# Altium schematic symbol library MCU_ST_STM32L5.SchLib: 44 symbols (part 1 of 2)
Pins are listed as number, name and electrical type; pins without a type are passive.

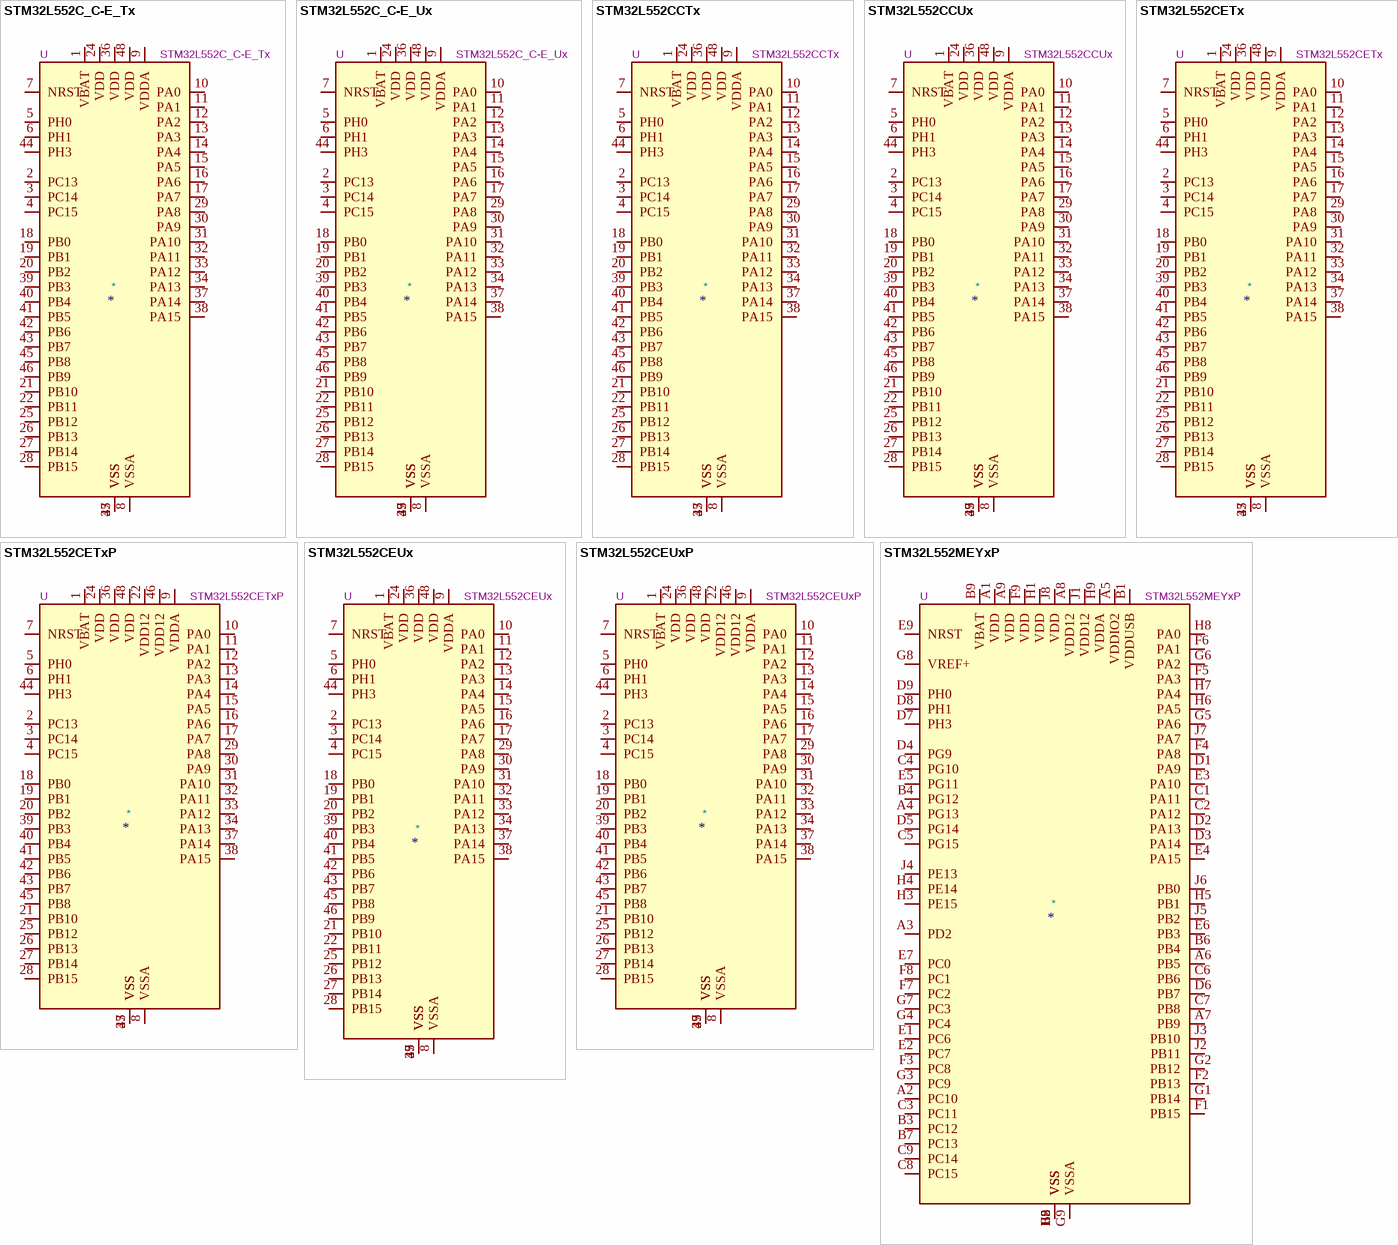
[diagram p0: symbols STM32L552C_C-E_Tx to STM32L552MEYxP]

## STM32L552C_C-E_Tx
designator *  value STM32L552C_C-E_Tx  Reference: U
STMicroelectronics Arm Cortex-M33 MCU, 256-512KB flash, 256KB RAM, 110 MHz, 1.71-3.6V, 38 GPIO, LQFP48; ki_keywords: Arm Cortex-M33 STM32L5 STM32L5x2; ki_fp_filters: LQFP*7x7mm*P0.5mm*; Footprint: Package_QFP:LQFP-48_7x7mm_P0.5mm; Datasheet: https://www.st.com/resource/en/datasheet/stm32l552cc.pdf; Description_: STMicroelectronics Arm Cortex-M33 MCU, 256-512KB flash, 256KB RAM, 110 MHz, 1.71-3.6V, 38 GPIO, LQFP48
pins: 1 VBAT, 2 PC13, 3 PC14, 4 PC15, 5 PH0, 6 PH1, 7 NRST, 8 VSSA, 9 VDDA, 10 PA0, 11 PA1, 12 PA2, 13 PA3, 14 PA4, 15 PA5, 16 PA6, 17 PA7, 18 PB0, 19 PB1, 20 PB2, 21 PB10, 22 PB11, 23 VSS, 24 VDD, 25 PB12, 26 PB13, 27 PB14, 28 PB15, 29 PA8, 30 PA9, 31 PA10, 32 PA11, 33 PA12, 34 PA13, 35 VSS, 36 VDD, 37 PA14, 38 PA15, 39 PB3, 40 PB4, 41 PB5, 42 PB6, 43 PB7, 44 PH3, 45 PB8, 46 PB9, 47 VSS, 48 VDD

## STM32L552C_C-E_Ux
designator *  value STM32L552C_C-E_Ux  Reference: U
STMicroelectronics Arm Cortex-M33 MCU, 256-512KB flash, 256KB RAM, 110 MHz, 1.71-3.6V, 38 GPIO, UFQFPN48; ki_keywords: Arm Cortex-M33 STM32L5 STM32L5x2; ki_fp_filters: QFN*1EP*7x7mm*P0.5mm*; Footprint: Package_DFN_QFN:QFN-48-1EP_7x7mm_P0.5mm_EP5.6x5.6mm; Datasheet: https://www.st.com/resource/en/datasheet/stm32l552cc.pdf; Description_: STMicroelectronics Arm Cortex-M33 MCU, 256-512KB flash, 256KB RAM, 110 MHz, 1.71-3.6V, 38 GPIO, UFQFPN48
pins: 1 VBAT, 2 PC13, 3 PC14, 4 PC15, 5 PH0, 6 PH1, 7 NRST, 8 VSSA, 9 VDDA, 10 PA0, 11 PA1, 12 PA2, 13 PA3, 14 PA4, 15 PA5, 16 PA6, 17 PA7, 18 PB0, 19 PB1, 20 PB2, 21 PB10, 22 PB11, 23 VSS, 24 VDD, 25 PB12, 26 PB13, 27 PB14, 28 PB15, 29 PA8, 30 PA9, 31 PA10, 32 PA11, 33 PA12, 34 PA13, 35 VSS, 36 VDD, 37 PA14, 38 PA15, 39 PB3, 40 PB4, 41 PB5, 42 PB6, 43 PB7, 44 PH3, 45 PB8, 46 PB9, 47 VSS, 48 VDD, 49 VSS

## STM32L552CCTx
designator *  value STM32L552CCTx  Reference: U
STMicroelectronics Arm Cortex-M33 MCU, 256KB flash, 256KB RAM, 110 MHz, 1.71-3.6V, 38 GPIO, LQFP48; ki_keywords: Arm Cortex-M33 STM32L5 STM32L5x2; ki_fp_filters: LQFP*7x7mm*P0.5mm*; Footprint: Package_QFP:LQFP-48_7x7mm_P0.5mm; Datasheet: https://www.st.com/resource/en/datasheet/stm32l552cc.pdf; Description_: STMicroelectronics Arm Cortex-M33 MCU, 256KB flash, 256KB RAM, 110 MHz, 1.71-3.6V, 38 GPIO, LQFP48
pins: 1 VBAT, 2 PC13, 3 PC14, 4 PC15, 5 PH0, 6 PH1, 7 NRST, 8 VSSA, 9 VDDA, 10 PA0, 11 PA1, 12 PA2, 13 PA3, 14 PA4, 15 PA5, 16 PA6, 17 PA7, 18 PB0, 19 PB1, 20 PB2, 21 PB10, 22 PB11, 23 VSS, 24 VDD, 25 PB12, 26 PB13, 27 PB14, 28 PB15, 29 PA8, 30 PA9, 31 PA10, 32 PA11, 33 PA12, 34 PA13, 35 VSS, 36 VDD, 37 PA14, 38 PA15, 39 PB3, 40 PB4, 41 PB5, 42 PB6, 43 PB7, 44 PH3, 45 PB8, 46 PB9, 47 VSS, 48 VDD

## STM32L552CCUx
designator *  value STM32L552CCUx  Reference: U
STMicroelectronics Arm Cortex-M33 MCU, 256KB flash, 256KB RAM, 110 MHz, 1.71-3.6V, 38 GPIO, UFQFPN48; ki_keywords: Arm Cortex-M33 STM32L5 STM32L5x2; ki_fp_filters: QFN*1EP*7x7mm*P0.5mm*; Footprint: Package_DFN_QFN:QFN-48-1EP_7x7mm_P0.5mm_EP5.6x5.6mm; Datasheet: https://www.st.com/resource/en/datasheet/stm32l552cc.pdf; Description_: STMicroelectronics Arm Cortex-M33 MCU, 256KB flash, 256KB RAM, 110 MHz, 1.71-3.6V, 38 GPIO, UFQFPN48
pins: 1 VBAT, 2 PC13, 3 PC14, 4 PC15, 5 PH0, 6 PH1, 7 NRST, 8 VSSA, 9 VDDA, 10 PA0, 11 PA1, 12 PA2, 13 PA3, 14 PA4, 15 PA5, 16 PA6, 17 PA7, 18 PB0, 19 PB1, 20 PB2, 21 PB10, 22 PB11, 23 VSS, 24 VDD, 25 PB12, 26 PB13, 27 PB14, 28 PB15, 29 PA8, 30 PA9, 31 PA10, 32 PA11, 33 PA12, 34 PA13, 35 VSS, 36 VDD, 37 PA14, 38 PA15, 39 PB3, 40 PB4, 41 PB5, 42 PB6, 43 PB7, 44 PH3, 45 PB8, 46 PB9, 47 VSS, 48 VDD, 49 VSS

## STM32L552CETx
designator *  value STM32L552CETx  Reference: U
STMicroelectronics Arm Cortex-M33 MCU, 512KB flash, 256KB RAM, 110 MHz, 1.71-3.6V, 38 GPIO, LQFP48; ki_keywords: Arm Cortex-M33 STM32L5 STM32L5x2; ki_fp_filters: LQFP*7x7mm*P0.5mm*; Footprint: Package_QFP:LQFP-48_7x7mm_P0.5mm; Datasheet: https://www.st.com/resource/en/datasheet/stm32l552ce.pdf; Description_: STMicroelectronics Arm Cortex-M33 MCU, 512KB flash, 256KB RAM, 110 MHz, 1.71-3.6V, 38 GPIO, LQFP48
pins: 1 VBAT, 2 PC13, 3 PC14, 4 PC15, 5 PH0, 6 PH1, 7 NRST, 8 VSSA, 9 VDDA, 10 PA0, 11 PA1, 12 PA2, 13 PA3, 14 PA4, 15 PA5, 16 PA6, 17 PA7, 18 PB0, 19 PB1, 20 PB2, 21 PB10, 22 PB11, 23 VSS, 24 VDD, 25 PB12, 26 PB13, 27 PB14, 28 PB15, 29 PA8, 30 PA9, 31 PA10, 32 PA11, 33 PA12, 34 PA13, 35 VSS, 36 VDD, 37 PA14, 38 PA15, 39 PB3, 40 PB4, 41 PB5, 42 PB6, 43 PB7, 44 PH3, 45 PB8, 46 PB9, 47 VSS, 48 VDD

## STM32L552CETxP
designator *  value STM32L552CETxP  Reference: U
STMicroelectronics Arm Cortex-M33 MCU, 512KB flash, 256KB RAM, 110 MHz, 1.71-3.6V, 36 GPIO, LQFP48; ki_keywords: Arm Cortex-M33 STM32L5 STM32L5x2; ki_fp_filters: LQFP*7x7mm*P0.5mm*; Footprint: Package_QFP:LQFP-48_7x7mm_P0.5mm; Datasheet: https://www.st.com/resource/en/datasheet/stm32l552ce.pdf; Description_: STMicroelectronics Arm Cortex-M33 MCU, 512KB flash, 256KB RAM, 110 MHz, 1.71-3.6V, 36 GPIO, LQFP48
pins: 1 VBAT, 2 PC13, 3 PC14, 4 PC15, 5 PH0, 6 PH1, 7 NRST, 8 VSSA, 9 VDDA, 10 PA0, 11 PA1, 12 PA2, 13 PA3, 14 PA4, 15 PA5, 16 PA6, 17 PA7, 18 PB0, 19 PB1, 20 PB2, 21 PB10, 22 VDD12, 23 VSS, 24 VDD, 25 PB12, 26 PB13, 27 PB14, 28 PB15, 29 PA8, 30 PA9, 31 PA10, 32 PA11, 33 PA12, 34 PA13, 35 VSS, 36 VDD, 37 PA14, 38 PA15, 39 PB3, 40 PB4, 41 PB5, 42 PB6, 43 PB7, 44 PH3, 45 PB8, 46 VDD12, 47 VSS, 48 VDD

## STM32L552CEUx
designator *  value STM32L552CEUx  Reference: U
STMicroelectronics Arm Cortex-M33 MCU, 512KB flash, 256KB RAM, 110 MHz, 1.71-3.6V, 38 GPIO, UFQFPN48; ki_keywords: Arm Cortex-M33 STM32L5 STM32L5x2; ki_fp_filters: QFN*1EP*7x7mm*P0.5mm*; Footprint: Package_DFN_QFN:QFN-48-1EP_7x7mm_P0.5mm_EP5.6x5.6mm; Datasheet: https://www.st.com/resource/en/datasheet/stm32l552ce.pdf; Description_: STMicroelectronics Arm Cortex-M33 MCU, 512KB flash, 256KB RAM, 110 MHz, 1.71-3.6V, 38 GPIO, UFQFPN48
pins: 1 VBAT, 2 PC13, 3 PC14, 4 PC15, 5 PH0, 6 PH1, 7 NRST, 8 VSSA, 9 VDDA, 10 PA0, 11 PA1, 12 PA2, 13 PA3, 14 PA4, 15 PA5, 16 PA6, 17 PA7, 18 PB0, 19 PB1, 20 PB2, 21 PB10, 22 PB11, 23 VSS, 24 VDD, 25 PB12, 26 PB13, 27 PB14, 28 PB15, 29 PA8, 30 PA9, 31 PA10, 32 PA11, 33 PA12, 34 PA13, 35 VSS, 36 VDD, 37 PA14, 38 PA15, 39 PB3, 40 PB4, 41 PB5, 42 PB6, 43 PB7, 44 PH3, 45 PB8, 46 PB9, 47 VSS, 48 VDD, 49 VSS

## STM32L552CEUxP
designator *  value STM32L552CEUxP  Reference: U
STMicroelectronics Arm Cortex-M33 MCU, 512KB flash, 256KB RAM, 110 MHz, 1.71-3.6V, 36 GPIO, UFQFPN48; ki_keywords: Arm Cortex-M33 STM32L5 STM32L5x2; ki_fp_filters: QFN*1EP*7x7mm*P0.5mm*; Footprint: Package_DFN_QFN:QFN-48-1EP_7x7mm_P0.5mm_EP5.6x5.6mm; Datasheet: https://www.st.com/resource/en/datasheet/stm32l552ce.pdf; Description_: STMicroelectronics Arm Cortex-M33 MCU, 512KB flash, 256KB RAM, 110 MHz, 1.71-3.6V, 36 GPIO, UFQFPN48
pins: 1 VBAT, 2 PC13, 3 PC14, 4 PC15, 5 PH0, 6 PH1, 7 NRST, 8 VSSA, 9 VDDA, 10 PA0, 11 PA1, 12 PA2, 13 PA3, 14 PA4, 15 PA5, 16 PA6, 17 PA7, 18 PB0, 19 PB1, 20 PB2, 21 PB10, 22 VDD12, 23 VSS, 24 VDD, 25 PB12, 26 PB13, 27 PB14, 28 PB15, 29 PA8, 30 PA9, 31 PA10, 32 PA11, 33 PA12, 34 PA13, 35 VSS, 36 VDD, 37 PA14, 38 PA15, 39 PB3, 40 PB4, 41 PB5, 42 PB6, 43 PB7, 44 PH3, 45 PB8, 46 VDD12, 47 VSS, 48 VDD, 49 VSS

## STM32L552MEYxP
designator *  value STM32L552MEYxP  Reference: U
STMicroelectronics Arm Cortex-M33 MCU, 512KB flash, 256KB RAM, 110 MHz, 1.71-3.6V, 61 GPIO, WLCSP81; ki_keywords: Arm Cortex-M33 STM32L5 STM32L5x2; ki_fp_filters: ST*WLCSP*4.36x4.07mm*Layout9x9*P0.4mm*; Footprint: Package_CSP:ST_WLCSP-81_4.36x4.07mm_Layout9x9_P0.4mm; Datasheet: https://www.st.com/resource/en/datasheet/stm32l552me.pdf; Description_: STMicroelectronics Arm Cortex-M33 MCU, 512KB flash, 256KB RAM, 110 MHz, 1.71-3.6V, 61 GPIO, WLCSP81
pins: A1 VDD, A2 PC10, A3 PD2, A4 PG13, A5 VDDIO2, A6 PB5, A7 PB9, A8 VDD12, A9 VDD, B1 VDDUSB, B2 VSS, B3 PC12, B4 PG12, B5 VSS, B6 PB4, B7 PC13, B8 VSS, B9 VBAT, C1 PA11, C2 PA12, C3 PC11, C4 PG10, C5 PG15, C6 PB6, C7 PB8, C8 PC15, C9 PC14, D1 PA9, D2 PA13, D3 PA14, D4 PG9, D5 PG14, D6 PB7, D7 PH3, D8 PH1, D9 PH0, E1 PC6, E2 PC7, E3 PA10, E4 PA15, E5 PG11, E6 PB3, E7 PC0, E8 VSS, E9 NRST, F1 PB15, F2 PB13, F3 PC8, F4 PA8, F5 PA3, F6 PA1, F7 PC2, F8 PC1, F9 VDD, G1 PB14, G2 PB12, G3 PC9, G4 PC4, G5 PA6, G6 PA2, G7 PC3, G8 VREF+, G9 VSSA, H1 VDD, H2 VSS, H3 PE15, H4 PE14, H5 PB1, H6 PA5, H7 PA4, H8 PA0, H9 VDDA, J1 VDD12, J2 PB11, J3 PB10, J4 PE13, J5 PB2, J6 PB0, J7 PA7, J8 VDD, J9 VSS

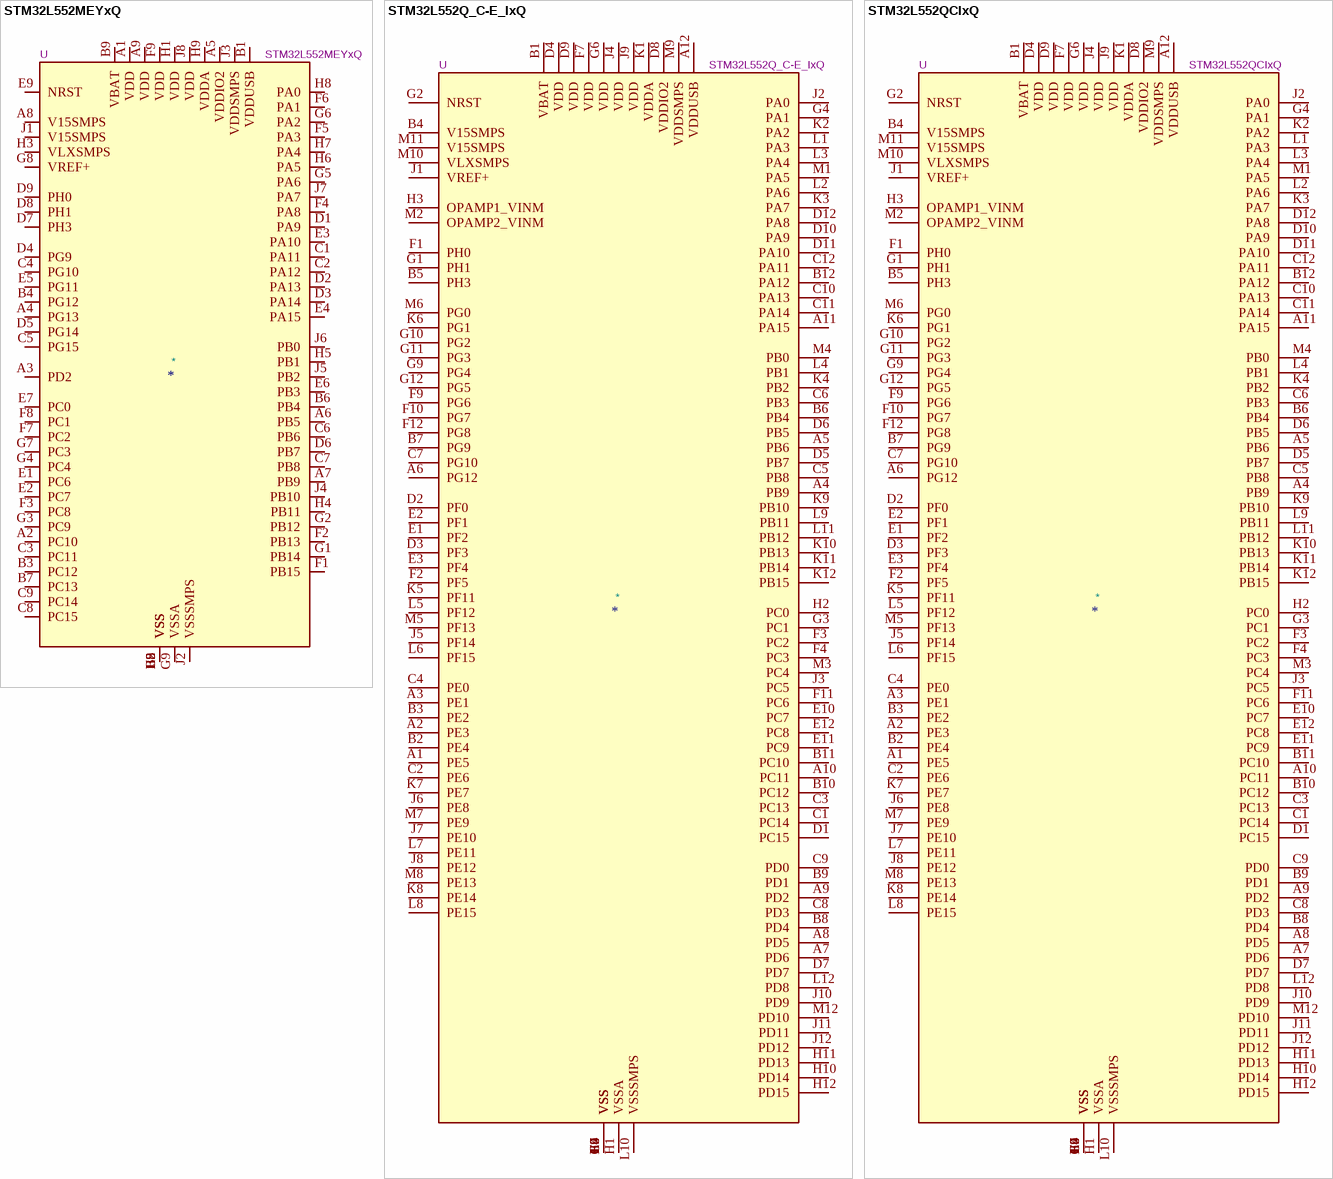
[diagram p1: symbols STM32L552MEYxQ to STM32L552QCIxQ]

## STM32L552MEYxQ
designator *  value STM32L552MEYxQ  Reference: U
STMicroelectronics Arm Cortex-M33 MCU, 512KB flash, 256KB RAM, 110 MHz, 1.71-3.6V, 58 GPIO, WLCSP81; ki_keywords: Arm Cortex-M33 STM32L5 STM32L5x2; ki_fp_filters: ST*WLCSP*4.36x4.07mm*Layout9x9*P0.4mm*; Footprint: Package_CSP:ST_WLCSP-81_4.36x4.07mm_Layout9x9_P0.4mm; Datasheet: https://www.st.com/resource/en/datasheet/stm32l552me.pdf; Description_: STMicroelectronics Arm Cortex-M33 MCU, 512KB flash, 256KB RAM, 110 MHz, 1.71-3.6V, 58 GPIO, WLCSP81
pins: A1 VDD, A2 PC10, A3 PD2, A4 PG13, A5 VDDIO2, A6 PB5, A7 PB9, A8 V15SMPS, A9 VDD, B1 VDDUSB, B2 VSS, B3 PC12, B4 PG12, B5 VSS, B6 PB4, B7 PC13, B8 VSS, B9 VBAT, C1 PA11, C2 PA12, C3 PC11, C4 PG10, C5 PG15, C6 PB6, C7 PB8, C8 PC15, C9 PC14, D1 PA9, D2 PA13, D3 PA14, D4 PG9, D5 PG14, D6 PB7, D7 PH3, D8 PH1, D9 PH0, E1 PC6, E2 PC7, E3 PA10, E4 PA15, E5 PG11, E6 PB3, E7 PC0, E8 VSS, E9 NRST, F1 PB15, F2 PB13, F3 PC8, F4 PA8, F5 PA3, F6 PA1, F7 PC2, F8 PC1, F9 VDD, G1 PB14, G2 PB12, G3 PC9, G4 PC4, G5 PA6, G6 PA2, G7 PC3, G8 VREF+, G9 VSSA, H1 VDD, H2 VSS, H3 VLXSMPS, H4 PB11, H5 PB1, H6 PA5, H7 PA4, H8 PA0, H9 VDDA, J1 V15SMPS, J2 VSSSMPS, J3 VDDSMPS, J4 PB10, J5 PB2, J6 PB0, J7 PA7, J8 VDD, J9 VSS

## STM32L552Q_C-E_IxQ
designator *  value STM32L552Q_C-E_IxQ  Reference: U
STMicroelectronics Arm Cortex-M33 MCU, 256-512KB flash, 256KB RAM, 110 MHz, 1.71-3.6V, 106 GPIO, UFBGA132; ki_keywords: Arm Cortex-M33 STM32L5 STM32L5x2; ki_fp_filters: UFBGA*7x7mm*Layout12x12*P0.5mm*; Footprint: Package_BGA:UFBGA-132_7x7mm_Layout12x12_P0.5mm; Datasheet: https://www.st.com/resource/en/datasheet/stm32l552qc.pdf; Description_: STMicroelectronics Arm Cortex-M33 MCU, 256-512KB flash, 256KB RAM, 110 MHz, 1.71-3.6V, 106 GPIO, UFBGA132
pins: A1 PE5, A2 PE3, A3 PE1, A4 PB9, A5 PB6, A6 PG12, A7 PD6, A8 PD5, A9 PD2, A10 PC11, A11 PA15, A12 VDDUSB, B1 VBAT, B2 PE4, B3 PE2, B4 V15SMPS, B5 PH3, B6 PB4, B7 PG9, B8 PD4, B9 PD1, B10 PC12, B11 PC10, B12 PA12, C1 PC14, C2 PE6, C3 PC13, C4 PE0, C5 PB8, C6 PB3, C7 PG10, C8 PD3, C9 PD0, C10 PA13, C11 PA14, C12 PA11, D1 PC15, D2 PF0, D3 PF3, D4 VDD, D5 PB7, D6 PB5, D7 PD7, D8 VDDIO2, D9 VDD, D10 PA9, D11 PA10, D12 PA8, E1 PF2, E2 PF1, E3 PF4, E4 VSS, E9 VSS, E10 PC7, E11 PC9, E12 PC8, F1 PH0, F2 PF5, F3 PC2, F4 PC3, F6 VSS, F7 VDD, F9 PG6, F10 PG7, F11 PC6, F12 PG8, G1 PH1, G2 NRST, G3 PC1, G4 PA1, G6 VDD, G7 VSS, G9 PG4, G10 PG2, G11 PG3, G12 PG5, H1 VSSA, H2 PC0, H3 OPAMP1_VINM, H4 VSS, H9 VSS, H10 PD14, H11 PD13, H12 PD15, J1 VREF+, J2 PA0, J3 PC5, J4 VDD, J5 PF14, J6 PE8, J7 PE10, J8 PE12, J9 VDD, J10 PD9, J11 PD11, J12 PD12, K1 VDDA, K2 PA2, K3 PA7, K4 PB2, K5 PF11, K6 PG1, K7 PE7, K8 PE14, K9 PB10, K10 PB13, K11 PB14, K12 PB15, L1 PA3, L2 PA6, L3 PA4, L4 PB1, L5 PF12, L6 PF15, L7 PE11, L8 PE15, L9 PB11, L10 VSSSMPS, L11 PB12, L12 PD8, M1 PA5, M2 OPAMP2_VINM, M3 PC4, M4 PB0, M5 PF13, M6 PG0, M7 PE9, M8 PE13, M9 VDDSMPS, M10 VLXSMPS, M11 V15SMPS, M12 PD10

## STM32L552QCIxQ
designator *  value STM32L552QCIxQ  Reference: U
STMicroelectronics Arm Cortex-M33 MCU, 256KB flash, 256KB RAM, 110 MHz, 1.71-3.6V, 106 GPIO, UFBGA132; ki_keywords: Arm Cortex-M33 STM32L5 STM32L5x2; ki_fp_filters: UFBGA*7x7mm*Layout12x12*P0.5mm*; Footprint: Package_BGA:UFBGA-132_7x7mm_Layout12x12_P0.5mm; Datasheet: https://www.st.com/resource/en/datasheet/stm32l552qc.pdf; Description_: STMicroelectronics Arm Cortex-M33 MCU, 256KB flash, 256KB RAM, 110 MHz, 1.71-3.6V, 106 GPIO, UFBGA132
pins: A1 PE5, A2 PE3, A3 PE1, A4 PB9, A5 PB6, A6 PG12, A7 PD6, A8 PD5, A9 PD2, A10 PC11, A11 PA15, A12 VDDUSB, B1 VBAT, B2 PE4, B3 PE2, B4 V15SMPS, B5 PH3, B6 PB4, B7 PG9, B8 PD4, B9 PD1, B10 PC12, B11 PC10, B12 PA12, C1 PC14, C2 PE6, C3 PC13, C4 PE0, C5 PB8, C6 PB3, C7 PG10, C8 PD3, C9 PD0, C10 PA13, C11 PA14, C12 PA11, D1 PC15, D2 PF0, D3 PF3, D4 VDD, D5 PB7, D6 PB5, D7 PD7, D8 VDDIO2, D9 VDD, D10 PA9, D11 PA10, D12 PA8, E1 PF2, E2 PF1, E3 PF4, E4 VSS, E9 VSS, E10 PC7, E11 PC9, E12 PC8, F1 PH0, F2 PF5, F3 PC2, F4 PC3, F6 VSS, F7 VDD, F9 PG6, F10 PG7, F11 PC6, F12 PG8, G1 PH1, G2 NRST, G3 PC1, G4 PA1, G6 VDD, G7 VSS, G9 PG4, G10 PG2, G11 PG3, G12 PG5, H1 VSSA, H2 PC0, H3 OPAMP1_VINM, H4 VSS, H9 VSS, H10 PD14, H11 PD13, H12 PD15, J1 VREF+, J2 PA0, J3 PC5, J4 VDD, J5 PF14, J6 PE8, J7 PE10, J8 PE12, J9 VDD, J10 PD9, J11 PD11, J12 PD12, K1 VDDA, K2 PA2, K3 PA7, K4 PB2, K5 PF11, K6 PG1, K7 PE7, K8 PE14, K9 PB10, K10 PB13, K11 PB14, K12 PB15, L1 PA3, L2 PA6, L3 PA4, L4 PB1, L5 PF12, L6 PF15, L7 PE11, L8 PE15, L9 PB11, L10 VSSSMPS, L11 PB12, L12 PD8, M1 PA5, M2 OPAMP2_VINM, M3 PC4, M4 PB0, M5 PF13, M6 PG0, M7 PE9, M8 PE13, M9 VDDSMPS, M10 VLXSMPS, M11 V15SMPS, M12 PD10

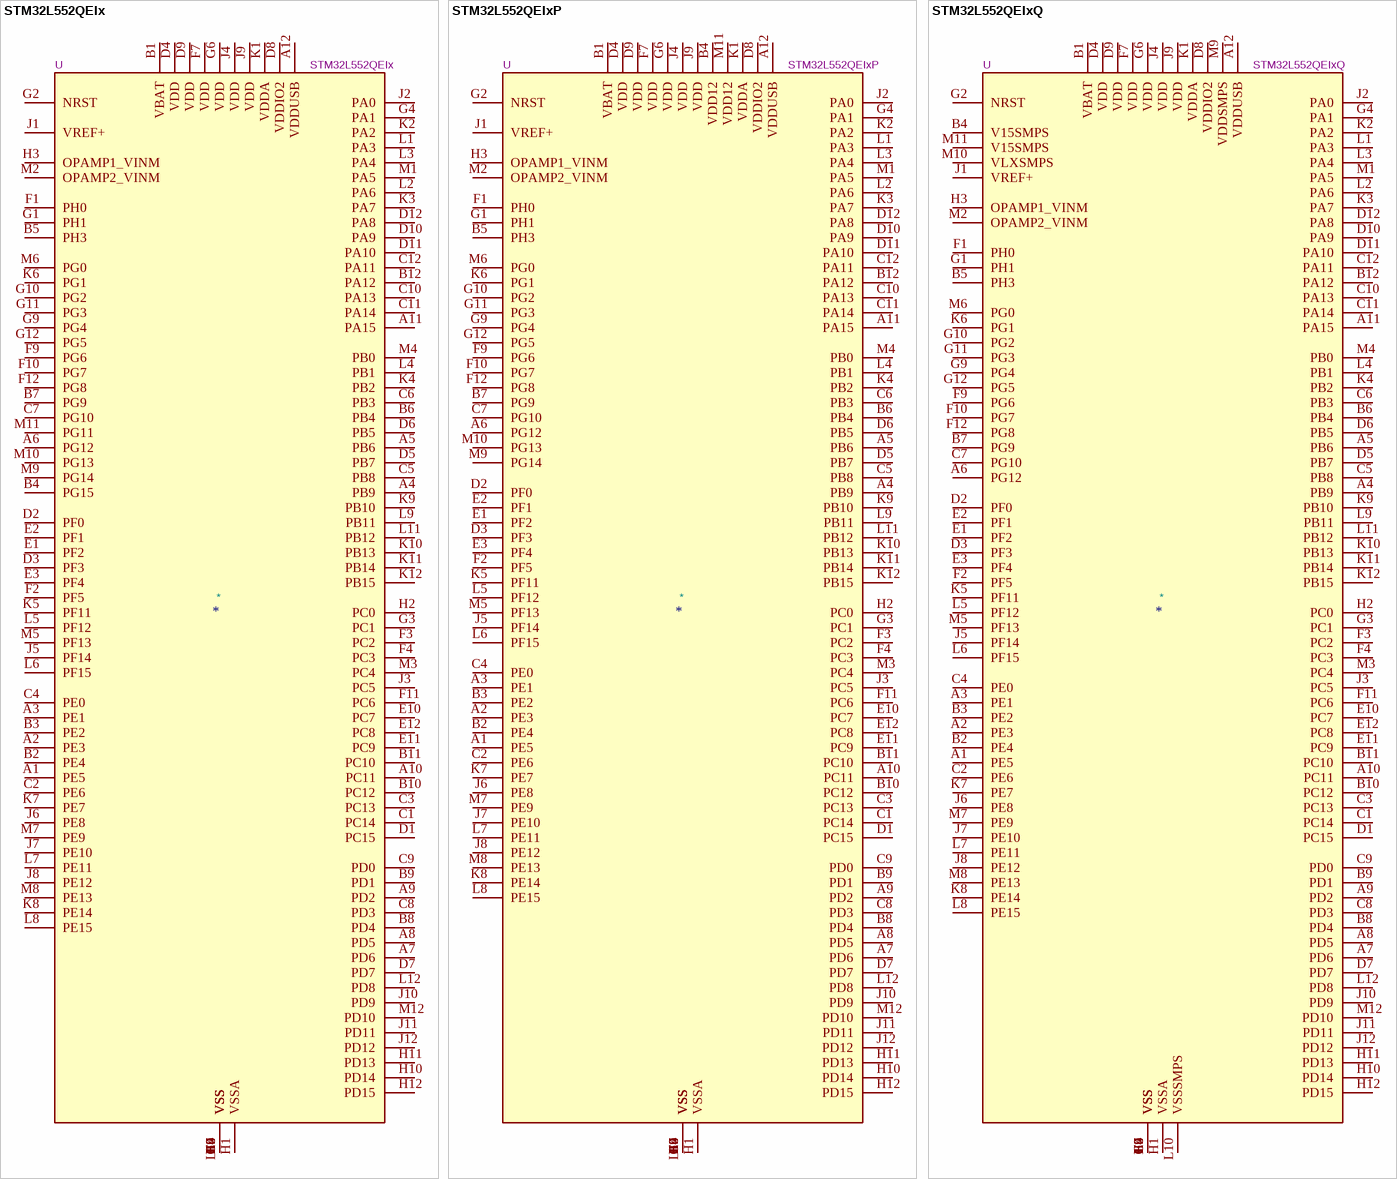
[diagram p2: symbols STM32L552QEIx to STM32L552QEIxQ]

## STM32L552QEIx
designator *  value STM32L552QEIx  Reference: U
STMicroelectronics Arm Cortex-M33 MCU, 512KB flash, 256KB RAM, 110 MHz, 1.71-3.6V, 110 GPIO, UFBGA132; ki_keywords: Arm Cortex-M33 STM32L5 STM32L5x2; ki_fp_filters: UFBGA*7x7mm*Layout12x12*P0.5mm*; Footprint: Package_BGA:UFBGA-132_7x7mm_Layout12x12_P0.5mm; Datasheet: https://www.st.com/resource/en/datasheet/stm32l552qe.pdf; Description_: STMicroelectronics Arm Cortex-M33 MCU, 512KB flash, 256KB RAM, 110 MHz, 1.71-3.6V, 110 GPIO, UFBGA132
pins: A1 PE5, A2 PE3, A3 PE1, A4 PB9, A5 PB6, A6 PG12, A7 PD6, A8 PD5, A9 PD2, A10 PC11, A11 PA15, A12 VDDUSB, B1 VBAT, B2 PE4, B3 PE2, B4 PG15, B5 PH3, B6 PB4, B7 PG9, B8 PD4, B9 PD1, B10 PC12, B11 PC10, B12 PA12, C1 PC14, C2 PE6, C3 PC13, C4 PE0, C5 PB8, C6 PB3, C7 PG10, C8 PD3, C9 PD0, C10 PA13, C11 PA14, C12 PA11, D1 PC15, D2 PF0, D3 PF3, D4 VDD, D5 PB7, D6 PB5, D7 PD7, D8 VDDIO2, D9 VDD, D10 PA9, D11 PA10, D12 PA8, E1 PF2, E2 PF1, E3 PF4, E4 VSS, E9 VSS, E10 PC7, E11 PC9, E12 PC8, F1 PH0, F2 PF5, F3 PC2, F4 PC3, F6 VSS, F7 VDD, F9 PG6, F10 PG7, F11 PC6, F12 PG8, G1 PH1, G2 NRST, G3 PC1, G4 PA1, G6 VDD, G7 VSS, G9 PG4, G10 PG2, G11 PG3, G12 PG5, H1 VSSA, H2 PC0, H3 OPAMP1_VINM, H4 VSS, H9 VSS, H10 PD14, H11 PD13, H12 PD15, J1 VREF+, J2 PA0, J3 PC5, J4 VDD, J5 PF14, J6 PE8, J7 PE10, J8 PE12, J9 VDD, J10 PD9, J11 PD11, J12 PD12, K1 VDDA, K2 PA2, K3 PA7, K4 PB2, K5 PF11, K6 PG1, K7 PE7, K8 PE14, K9 PB10, K10 PB13, K11 PB14, K12 PB15, L1 PA3, L2 PA6, L3 PA4, L4 PB1, L5 PF12, L6 PF15, L7 PE11, L8 PE15, L9 PB11, L10 VSS, L11 PB12, L12 PD8, M1 PA5, M2 OPAMP2_VINM, M3 PC4, M4 PB0, M5 PF13, M6 PG0, M7 PE9, M8 PE13, M9 PG14, M10 PG13, M11 PG11, M12 PD10

## STM32L552QEIxP
designator *  value STM32L552QEIxP  Reference: U
STMicroelectronics Arm Cortex-M33 MCU, 512KB flash, 256KB RAM, 110 MHz, 1.71-3.6V, 108 GPIO, UFBGA132; ki_keywords: Arm Cortex-M33 STM32L5 STM32L5x2; ki_fp_filters: UFBGA*7x7mm*Layout12x12*P0.5mm*; Footprint: Package_BGA:UFBGA-132_7x7mm_Layout12x12_P0.5mm; Datasheet: https://www.st.com/resource/en/datasheet/stm32l552qe.pdf; Description_: STMicroelectronics Arm Cortex-M33 MCU, 512KB flash, 256KB RAM, 110 MHz, 1.71-3.6V, 108 GPIO, UFBGA132
pins: A1 PE5, A2 PE3, A3 PE1, A4 PB9, A5 PB6, A6 PG12, A7 PD6, A8 PD5, A9 PD2, A10 PC11, A11 PA15, A12 VDDUSB, B1 VBAT, B2 PE4, B3 PE2, B4 VDD12, B5 PH3, B6 PB4, B7 PG9, B8 PD4, B9 PD1, B10 PC12, B11 PC10, B12 PA12, C1 PC14, C2 PE6, C3 PC13, C4 PE0, C5 PB8, C6 PB3, C7 PG10, C8 PD3, C9 PD0, C10 PA13, C11 PA14, C12 PA11, D1 PC15, D2 PF0, D3 PF3, D4 VDD, D5 PB7, D6 PB5, D7 PD7, D8 VDDIO2, D9 VDD, D10 PA9, D11 PA10, D12 PA8, E1 PF2, E2 PF1, E3 PF4, E4 VSS, E9 VSS, E10 PC7, E11 PC9, E12 PC8, F1 PH0, F2 PF5, F3 PC2, F4 PC3, F6 VSS, F7 VDD, F9 PG6, F10 PG7, F11 PC6, F12 PG8, G1 PH1, G2 NRST, G3 PC1, G4 PA1, G6 VDD, G7 VSS, G9 PG4, G10 PG2, G11 PG3, G12 PG5, H1 VSSA, H2 PC0, H3 OPAMP1_VINM, H4 VSS, H9 VSS, H10 PD14, H11 PD13, H12 PD15, J1 VREF+, J2 PA0, J3 PC5, J4 VDD, J5 PF14, J6 PE8, J7 PE10, J8 PE12, J9 VDD, J10 PD9, J11 PD11, J12 PD12, K1 VDDA, K2 PA2, K3 PA7, K4 PB2, K5 PF11, K6 PG1, K7 PE7, K8 PE14, K9 PB10, K10 PB13, K11 PB14, K12 PB15, L1 PA3, L2 PA6, L3 PA4, L4 PB1, L5 PF12, L6 PF15, L7 PE11, L8 PE15, L9 PB11, L10 VSS, L11 PB12, L12 PD8, M1 PA5, M2 OPAMP2_VINM, M3 PC4, M4 PB0, M5 PF13, M6 PG0, M7 PE9, M8 PE13, M9 PG14, M10 PG13, M11 VDD12, M12 PD10

## STM32L552QEIxQ
designator *  value STM32L552QEIxQ  Reference: U
STMicroelectronics Arm Cortex-M33 MCU, 512KB flash, 256KB RAM, 110 MHz, 1.71-3.6V, 106 GPIO, UFBGA132; ki_keywords: Arm Cortex-M33 STM32L5 STM32L5x2; ki_fp_filters: UFBGA*7x7mm*Layout12x12*P0.5mm*; Footprint: Package_BGA:UFBGA-132_7x7mm_Layout12x12_P0.5mm; Datasheet: https://www.st.com/resource/en/datasheet/stm32l552qe.pdf; Description_: STMicroelectronics Arm Cortex-M33 MCU, 512KB flash, 256KB RAM, 110 MHz, 1.71-3.6V, 106 GPIO, UFBGA132
pins: A1 PE5, A2 PE3, A3 PE1, A4 PB9, A5 PB6, A6 PG12, A7 PD6, A8 PD5, A9 PD2, A10 PC11, A11 PA15, A12 VDDUSB, B1 VBAT, B2 PE4, B3 PE2, B4 V15SMPS, B5 PH3, B6 PB4, B7 PG9, B8 PD4, B9 PD1, B10 PC12, B11 PC10, B12 PA12, C1 PC14, C2 PE6, C3 PC13, C4 PE0, C5 PB8, C6 PB3, C7 PG10, C8 PD3, C9 PD0, C10 PA13, C11 PA14, C12 PA11, D1 PC15, D2 PF0, D3 PF3, D4 VDD, D5 PB7, D6 PB5, D7 PD7, D8 VDDIO2, D9 VDD, D10 PA9, D11 PA10, D12 PA8, E1 PF2, E2 PF1, E3 PF4, E4 VSS, E9 VSS, E10 PC7, E11 PC9, E12 PC8, F1 PH0, F2 PF5, F3 PC2, F4 PC3, F6 VSS, F7 VDD, F9 PG6, F10 PG7, F11 PC6, F12 PG8, G1 PH1, G2 NRST, G3 PC1, G4 PA1, G6 VDD, G7 VSS, G9 PG4, G10 PG2, G11 PG3, G12 PG5, H1 VSSA, H2 PC0, H3 OPAMP1_VINM, H4 VSS, H9 VSS, H10 PD14, H11 PD13, H12 PD15, J1 VREF+, J2 PA0, J3 PC5, J4 VDD, J5 PF14, J6 PE8, J7 PE10, J8 PE12, J9 VDD, J10 PD9, J11 PD11, J12 PD12, K1 VDDA, K2 PA2, K3 PA7, K4 PB2, K5 PF11, K6 PG1, K7 PE7, K8 PE14, K9 PB10, K10 PB13, K11 PB14, K12 PB15, L1 PA3, L2 PA6, L3 PA4, L4 PB1, L5 PF12, L6 PF15, L7 PE11, L8 PE15, L9 PB11, L10 VSSSMPS, L11 PB12, L12 PD8, M1 PA5, M2 OPAMP2_VINM, M3 PC4, M4 PB0, M5 PF13, M6 PG0, M7 PE9, M8 PE13, M9 VDDSMPS, M10 VLXSMPS, M11 V15SMPS, M12 PD10

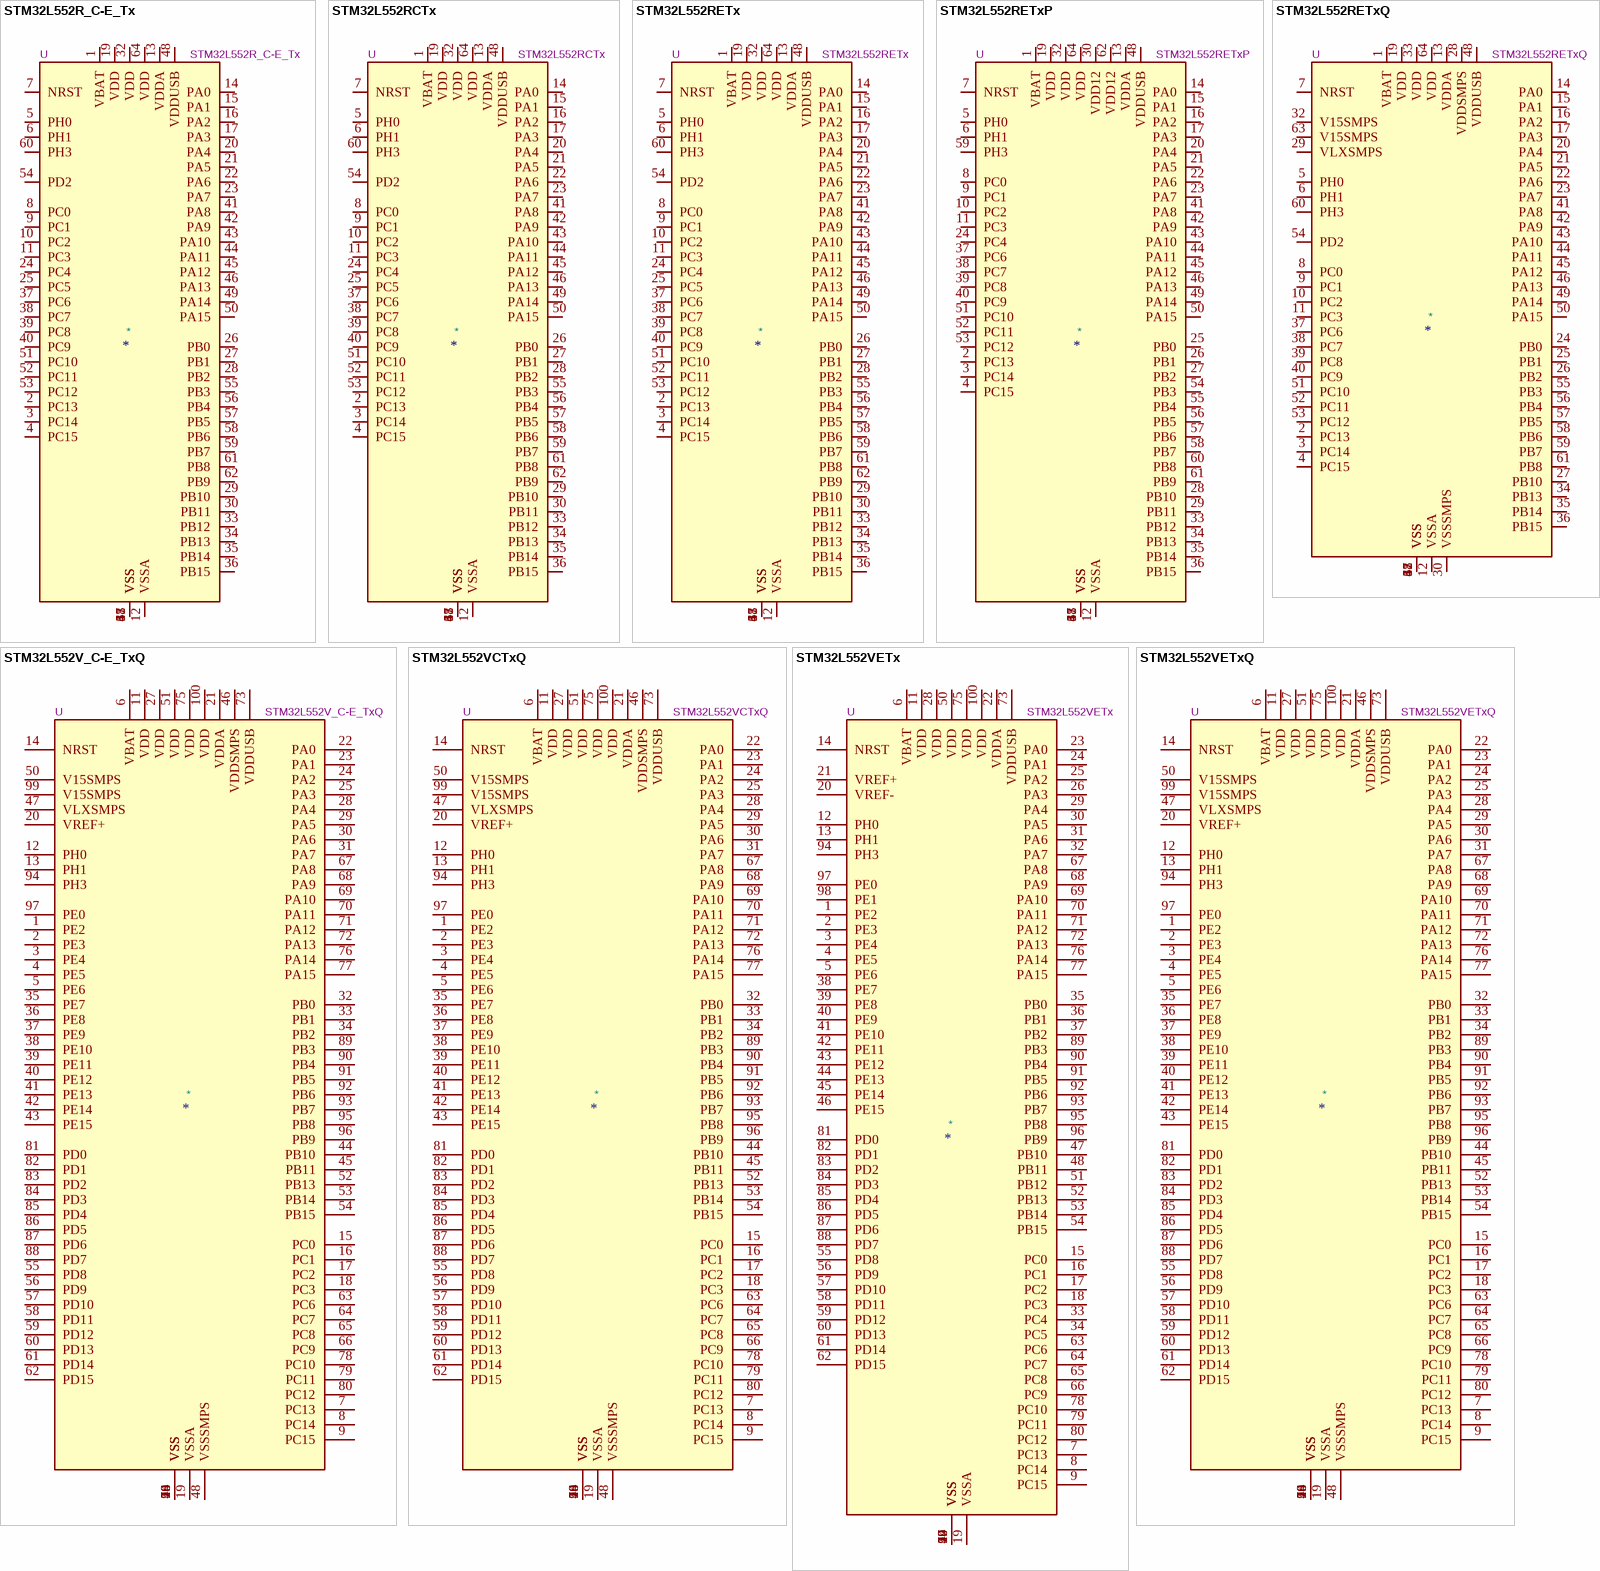
[diagram p3: symbols STM32L552R_C-E_Tx to STM32L552VETxQ]

## STM32L552R_C-E_Tx
designator *  value STM32L552R_C-E_Tx  Reference: U
STMicroelectronics Arm Cortex-M33 MCU, 256-512KB flash, 256KB RAM, 110 MHz, 1.71-3.6V, 52 GPIO, LQFP64; ki_keywords: Arm Cortex-M33 STM32L5 STM32L5x2; ki_fp_filters: LQFP*10x10mm*P0.5mm*; Footprint: Package_QFP:LQFP-64_10x10mm_P0.5mm; Datasheet: https://www.st.com/resource/en/datasheet/stm32l552rc.pdf; Description_: STMicroelectronics Arm Cortex-M33 MCU, 256-512KB flash, 256KB RAM, 110 MHz, 1.71-3.6V, 52 GPIO, LQFP64
pins: 1 VBAT, 2 PC13, 3 PC14, 4 PC15, 5 PH0, 6 PH1, 7 NRST, 8 PC0, 9 PC1, 10 PC2, 11 PC3, 12 VSSA, 13 VDDA, 14 PA0, 15 PA1, 16 PA2, 17 PA3, 18 VSS, 19 VDD, 20 PA4, 21 PA5, 22 PA6, 23 PA7, 24 PC4, 25 PC5, 26 PB0, 27 PB1, 28 PB2, 29 PB10, 30 PB11, 31 VSS, 32 VDD, 33 PB12, 34 PB13, 35 PB14, 36 PB15, 37 PC6, 38 PC7, 39 PC8, 40 PC9, 41 PA8, 42 PA9, 43 PA10, 44 PA11, 45 PA12, 46 PA13, 47 VSS, 48 VDDUSB, 49 PA14, 50 PA15, 51 PC10, 52 PC11, 53 PC12, 54 PD2, 55 PB3, 56 PB4, 57 PB5, 58 PB6, 59 PB7, 60 PH3, 61 PB8, 62 PB9, 63 VSS, 64 VDD

## STM32L552RCTx
designator *  value STM32L552RCTx  Reference: U
STMicroelectronics Arm Cortex-M33 MCU, 256KB flash, 256KB RAM, 110 MHz, 1.71-3.6V, 52 GPIO, LQFP64; ki_keywords: Arm Cortex-M33 STM32L5 STM32L5x2; ki_fp_filters: LQFP*10x10mm*P0.5mm*; Footprint: Package_QFP:LQFP-64_10x10mm_P0.5mm; Datasheet: https://www.st.com/resource/en/datasheet/stm32l552rc.pdf; Description_: STMicroelectronics Arm Cortex-M33 MCU, 256KB flash, 256KB RAM, 110 MHz, 1.71-3.6V, 52 GPIO, LQFP64
pins: 1 VBAT, 2 PC13, 3 PC14, 4 PC15, 5 PH0, 6 PH1, 7 NRST, 8 PC0, 9 PC1, 10 PC2, 11 PC3, 12 VSSA, 13 VDDA, 14 PA0, 15 PA1, 16 PA2, 17 PA3, 18 VSS, 19 VDD, 20 PA4, 21 PA5, 22 PA6, 23 PA7, 24 PC4, 25 PC5, 26 PB0, 27 PB1, 28 PB2, 29 PB10, 30 PB11, 31 VSS, 32 VDD, 33 PB12, 34 PB13, 35 PB14, 36 PB15, 37 PC6, 38 PC7, 39 PC8, 40 PC9, 41 PA8, 42 PA9, 43 PA10, 44 PA11, 45 PA12, 46 PA13, 47 VSS, 48 VDDUSB, 49 PA14, 50 PA15, 51 PC10, 52 PC11, 53 PC12, 54 PD2, 55 PB3, 56 PB4, 57 PB5, 58 PB6, 59 PB7, 60 PH3, 61 PB8, 62 PB9, 63 VSS, 64 VDD

## STM32L552RETx
designator *  value STM32L552RETx  Reference: U
STMicroelectronics Arm Cortex-M33 MCU, 512KB flash, 256KB RAM, 110 MHz, 1.71-3.6V, 52 GPIO, LQFP64; ki_keywords: Arm Cortex-M33 STM32L5 STM32L5x2; ki_fp_filters: LQFP*10x10mm*P0.5mm*; Footprint: Package_QFP:LQFP-64_10x10mm_P0.5mm; Datasheet: https://www.st.com/resource/en/datasheet/stm32l552re.pdf; Description_: STMicroelectronics Arm Cortex-M33 MCU, 512KB flash, 256KB RAM, 110 MHz, 1.71-3.6V, 52 GPIO, LQFP64
pins: 1 VBAT, 2 PC13, 3 PC14, 4 PC15, 5 PH0, 6 PH1, 7 NRST, 8 PC0, 9 PC1, 10 PC2, 11 PC3, 12 VSSA, 13 VDDA, 14 PA0, 15 PA1, 16 PA2, 17 PA3, 18 VSS, 19 VDD, 20 PA4, 21 PA5, 22 PA6, 23 PA7, 24 PC4, 25 PC5, 26 PB0, 27 PB1, 28 PB2, 29 PB10, 30 PB11, 31 VSS, 32 VDD, 33 PB12, 34 PB13, 35 PB14, 36 PB15, 37 PC6, 38 PC7, 39 PC8, 40 PC9, 41 PA8, 42 PA9, 43 PA10, 44 PA11, 45 PA12, 46 PA13, 47 VSS, 48 VDDUSB, 49 PA14, 50 PA15, 51 PC10, 52 PC11, 53 PC12, 54 PD2, 55 PB3, 56 PB4, 57 PB5, 58 PB6, 59 PB7, 60 PH3, 61 PB8, 62 PB9, 63 VSS, 64 VDD

## STM32L552RETxP
designator *  value STM32L552RETxP  Reference: U
STMicroelectronics Arm Cortex-M33 MCU, 512KB flash, 256KB RAM, 110 MHz, 1.71-3.6V, 50 GPIO, LQFP64; ki_keywords: Arm Cortex-M33 STM32L5 STM32L5x2; ki_fp_filters: LQFP*10x10mm*P0.5mm*; Footprint: Package_QFP:LQFP-64_10x10mm_P0.5mm; Datasheet: https://www.st.com/resource/en/datasheet/stm32l552re.pdf; Description_: STMicroelectronics Arm Cortex-M33 MCU, 512KB flash, 256KB RAM, 110 MHz, 1.71-3.6V, 50 GPIO, LQFP64
pins: 1 VBAT, 2 PC13, 3 PC14, 4 PC15, 5 PH0, 6 PH1, 7 NRST, 8 PC0, 9 PC1, 10 PC2, 11 PC3, 12 VSSA, 13 VDDA, 14 PA0, 15 PA1, 16 PA2, 17 PA3, 18 VSS, 19 VDD, 20 PA4, 21 PA5, 22 PA6, 23 PA7, 24 PC4, 25 PB0, 26 PB1, 27 PB2, 28 PB10, 29 PB11, 30 VDD12, 31 VSS, 32 VDD, 33 PB12, 34 PB13, 35 PB14, 36 PB15, 37 PC6, 38 PC7, 39 PC8, 40 PC9, 41 PA8, 42 PA9, 43 PA10, 44 PA11, 45 PA12, 46 PA13, 47 VSS, 48 VDDUSB, 49 PA14, 50 PA15, 51 PC10, 52 PC11, 53 PC12, 54 PB3, 55 PB4, 56 PB5, 57 PB6, 58 PB7, 59 PH3, 60 PB8, 61 PB9, 62 VDD12, 63 VSS, 64 VDD

## STM32L552RETxQ
designator *  value STM32L552RETxQ  Reference: U
STMicroelectronics Arm Cortex-M33 MCU, 512KB flash, 256KB RAM, 110 MHz, 1.71-3.6V, 47 GPIO, LQFP64; ki_keywords: Arm Cortex-M33 STM32L5 STM32L5x2; ki_fp_filters: LQFP*10x10mm*P0.5mm*; Footprint: Package_QFP:LQFP-64_10x10mm_P0.5mm; Datasheet: https://www.st.com/resource/en/datasheet/stm32l552re.pdf; Description_: STMicroelectronics Arm Cortex-M33 MCU, 512KB flash, 256KB RAM, 110 MHz, 1.71-3.6V, 47 GPIO, LQFP64
pins: 1 VBAT, 2 PC13, 3 PC14, 4 PC15, 5 PH0, 6 PH1, 7 NRST, 8 PC0, 9 PC1, 10 PC2, 11 PC3, 12 VSSA, 13 VDDA, 14 PA0, 15 PA1, 16 PA2, 17 PA3, 18 VSS, 19 VDD, 20 PA4, 21 PA5, 22 PA6, 23 PA7, 24 PB0, 25 PB1, 26 PB2, 27 PB10, 28 VDDSMPS, 29 VLXSMPS, 30 VSSSMPS, 31 VSS, 32 V15SMPS, 33 VDD, 34 PB13, 35 PB14, 36 PB15, 37 PC6, 38 PC7, 39 PC8, 40 PC9, 41 PA8, 42 PA9, 43 PA10, 44 PA11, 45 PA12, 46 PA13, 47 VSS, 48 VDDUSB, 49 PA14, 50 PA15, 51 PC10, 52 PC11, 53 PC12, 54 PD2, 55 PB3, 56 PB4, 57 PB5, 58 PB6, 59 PB7, 60 PH3, 61 PB8, 62 VSS, 63 V15SMPS, 64 VDD

## STM32L552V_C-E_TxQ
designator *  value STM32L552V_C-E_TxQ  Reference: U
STMicroelectronics Arm Cortex-M33 MCU, 256-512KB flash, 256KB RAM, 110 MHz, 1.71-3.6V, 79 GPIO, LQFP100; ki_keywords: Arm Cortex-M33 STM32L5 STM32L5x2; ki_fp_filters: LQFP*14x14mm*P0.5mm*; Footprint: Package_QFP:LQFP-100_14x14mm_P0.5mm; Datasheet: https://www.st.com/resource/en/datasheet/stm32l552vc.pdf; Description_: STMicroelectronics Arm Cortex-M33 MCU, 256-512KB flash, 256KB RAM, 110 MHz, 1.71-3.6V, 79 GPIO, LQFP100
pins: 1 PE2, 2 PE3, 3 PE4, 4 PE5, 5 PE6, 6 VBAT, 7 PC13, 8 PC14, 9 PC15, 10 VSS, 11 VDD, 12 PH0, 13 PH1, 14 NRST, 15 PC0, 16 PC1, 17 PC2, 18 PC3, 19 VSSA, 20 VREF+, 21 VDDA, 22 PA0, 23 PA1, 24 PA2, 25 PA3, 26 VSS, 27 VDD, 28 PA4, 29 PA5, 30 PA6, 31 PA7, 32 PB0, 33 PB1, 34 PB2, 35 PE7, 36 PE8, 37 PE9, 38 PE10, 39 PE11, 40 PE12, 41 PE13, 42 PE14, 43 PE15, 44 PB10, 45 PB11, 46 VDDSMPS, 47 VLXSMPS, 48 VSSSMPS, 49 VSS, 50 V15SMPS, 51 VDD, 52 PB13, 53 PB14, 54 PB15, 55 PD8, 56 PD9, 57 PD10, 58 PD11, 59 PD12, 60 PD13, 61 PD14, 62 PD15, 63 PC6, 64 PC7, 65 PC8, 66 PC9, 67 PA8, 68 PA9, 69 PA10, 70 PA11, 71 PA12, 72 PA13, 73 VDDUSB, 74 VSS, 75 VDD, 76 PA14, 77 PA15, 78 PC10, 79 PC11, 80 PC12, 81 PD0, 82 PD1, 83 PD2, 84 PD3, 85 PD4, 86 PD5, 87 PD6, 88 PD7, 89 PB3, 90 PB4, 91 PB5, 92 PB6, 93 PB7, 94 PH3, 95 PB8, 96 PB9, 97 PE0, 98 VSS, 99 V15SMPS, 100 VDD

## STM32L552VCTxQ
designator *  value STM32L552VCTxQ  Reference: U
STMicroelectronics Arm Cortex-M33 MCU, 256KB flash, 256KB RAM, 110 MHz, 1.71-3.6V, 79 GPIO, LQFP100; ki_keywords: Arm Cortex-M33 STM32L5 STM32L5x2; ki_fp_filters: LQFP*14x14mm*P0.5mm*; Footprint: Package_QFP:LQFP-100_14x14mm_P0.5mm; Datasheet: https://www.st.com/resource/en/datasheet/stm32l552vc.pdf; Description_: STMicroelectronics Arm Cortex-M33 MCU, 256KB flash, 256KB RAM, 110 MHz, 1.71-3.6V, 79 GPIO, LQFP100
pins: 1 PE2, 2 PE3, 3 PE4, 4 PE5, 5 PE6, 6 VBAT, 7 PC13, 8 PC14, 9 PC15, 10 VSS, 11 VDD, 12 PH0, 13 PH1, 14 NRST, 15 PC0, 16 PC1, 17 PC2, 18 PC3, 19 VSSA, 20 VREF+, 21 VDDA, 22 PA0, 23 PA1, 24 PA2, 25 PA3, 26 VSS, 27 VDD, 28 PA4, 29 PA5, 30 PA6, 31 PA7, 32 PB0, 33 PB1, 34 PB2, 35 PE7, 36 PE8, 37 PE9, 38 PE10, 39 PE11, 40 PE12, 41 PE13, 42 PE14, 43 PE15, 44 PB10, 45 PB11, 46 VDDSMPS, 47 VLXSMPS, 48 VSSSMPS, 49 VSS, 50 V15SMPS, 51 VDD, 52 PB13, 53 PB14, 54 PB15, 55 PD8, 56 PD9, 57 PD10, 58 PD11, 59 PD12, 60 PD13, 61 PD14, 62 PD15, 63 PC6, 64 PC7, 65 PC8, 66 PC9, 67 PA8, 68 PA9, 69 PA10, 70 PA11, 71 PA12, 72 PA13, 73 VDDUSB, 74 VSS, 75 VDD, 76 PA14, 77 PA15, 78 PC10, 79 PC11, 80 PC12, 81 PD0, 82 PD1, 83 PD2, 84 PD3, 85 PD4, 86 PD5, 87 PD6, 88 PD7, 89 PB3, 90 PB4, 91 PB5, 92 PB6, 93 PB7, 94 PH3, 95 PB8, 96 PB9, 97 PE0, 98 VSS, 99 V15SMPS, 100 VDD

## STM32L552VETx
designator *  value STM32L552VETx  Reference: U
STMicroelectronics Arm Cortex-M33 MCU, 512KB flash, 256KB RAM, 110 MHz, 1.71-3.6V, 83 GPIO, LQFP100; ki_keywords: Arm Cortex-M33 STM32L5 STM32L5x2; ki_fp_filters: LQFP*14x14mm*P0.5mm*; Footprint: Package_QFP:LQFP-100_14x14mm_P0.5mm; Datasheet: https://www.st.com/resource/en/datasheet/stm32l552ve.pdf; Description_: STMicroelectronics Arm Cortex-M33 MCU, 512KB flash, 256KB RAM, 110 MHz, 1.71-3.6V, 83 GPIO, LQFP100
pins: 1 PE2, 2 PE3, 3 PE4, 4 PE5, 5 PE6, 6 VBAT, 7 PC13, 8 PC14, 9 PC15, 10 VSS, 11 VDD, 12 PH0, 13 PH1, 14 NRST, 15 PC0, 16 PC1, 17 PC2, 18 PC3, 19 VSSA, 20 VREF-, 21 VREF+, 22 VDDA, 23 PA0, 24 PA1, 25 PA2, 26 PA3, 27 VSS, 28 VDD, 29 PA4, 30 PA5, 31 PA6, 32 PA7, 33 PC4, 34 PC5, 35 PB0, 36 PB1, 37 PB2, 38 PE7, 39 PE8, 40 PE9, 41 PE10, 42 PE11, 43 PE12, 44 PE13, 45 PE14, 46 PE15, 47 PB10, 48 PB11, 49 VSS, 50 VDD, 51 PB12, 52 PB13, 53 PB14, 54 PB15, 55 PD8, 56 PD9, 57 PD10, 58 PD11, 59 PD12, 60 PD13, 61 PD14, 62 PD15, 63 PC6, 64 PC7, 65 PC8, 66 PC9, 67 PA8, 68 PA9, 69 PA10, 70 PA11, 71 PA12, 72 PA13, 73 VDDUSB, 74 VSS, 75 VDD, 76 PA14, 77 PA15, 78 PC10, 79 PC11, 80 PC12, 81 PD0, 82 PD1, 83 PD2, 84 PD3, 85 PD4, 86 PD5, 87 PD6, 88 PD7, 89 PB3, 90 PB4, 91 PB5, 92 PB6, 93 PB7, 94 PH3, 95 PB8, 96 PB9, 97 PE0, 98 PE1, 99 VSS, 100 VDD

## STM32L552VETxQ
designator *  value STM32L552VETxQ  Reference: U
STMicroelectronics Arm Cortex-M33 MCU, 512KB flash, 256KB RAM, 110 MHz, 1.71-3.6V, 79 GPIO, LQFP100; ki_keywords: Arm Cortex-M33 STM32L5 STM32L5x2; ki_fp_filters: LQFP*14x14mm*P0.5mm*; Footprint: Package_QFP:LQFP-100_14x14mm_P0.5mm; Datasheet: https://www.st.com/resource/en/datasheet/stm32l552ve.pdf; Description_: STMicroelectronics Arm Cortex-M33 MCU, 512KB flash, 256KB RAM, 110 MHz, 1.71-3.6V, 79 GPIO, LQFP100
pins: 1 PE2, 2 PE3, 3 PE4, 4 PE5, 5 PE6, 6 VBAT, 7 PC13, 8 PC14, 9 PC15, 10 VSS, 11 VDD, 12 PH0, 13 PH1, 14 NRST, 15 PC0, 16 PC1, 17 PC2, 18 PC3, 19 VSSA, 20 VREF+, 21 VDDA, 22 PA0, 23 PA1, 24 PA2, 25 PA3, 26 VSS, 27 VDD, 28 PA4, 29 PA5, 30 PA6, 31 PA7, 32 PB0, 33 PB1, 34 PB2, 35 PE7, 36 PE8, 37 PE9, 38 PE10, 39 PE11, 40 PE12, 41 PE13, 42 PE14, 43 PE15, 44 PB10, 45 PB11, 46 VDDSMPS, 47 VLXSMPS, 48 VSSSMPS, 49 VSS, 50 V15SMPS, 51 VDD, 52 PB13, 53 PB14, 54 PB15, 55 PD8, 56 PD9, 57 PD10, 58 PD11, 59 PD12, 60 PD13, 61 PD14, 62 PD15, 63 PC6, 64 PC7, 65 PC8, 66 PC9, 67 PA8, 68 PA9, 69 PA10, 70 PA11, 71 PA12, 72 PA13, 73 VDDUSB, 74 VSS, 75 VDD, 76 PA14, 77 PA15, 78 PC10, 79 PC11, 80 PC12, 81 PD0, 82 PD1, 83 PD2, 84 PD3, 85 PD4, 86 PD5, 87 PD6, 88 PD7, 89 PB3, 90 PB4, 91 PB5, 92 PB6, 93 PB7, 94 PH3, 95 PB8, 96 PB9, 97 PE0, 98 VSS, 99 V15SMPS, 100 VDD

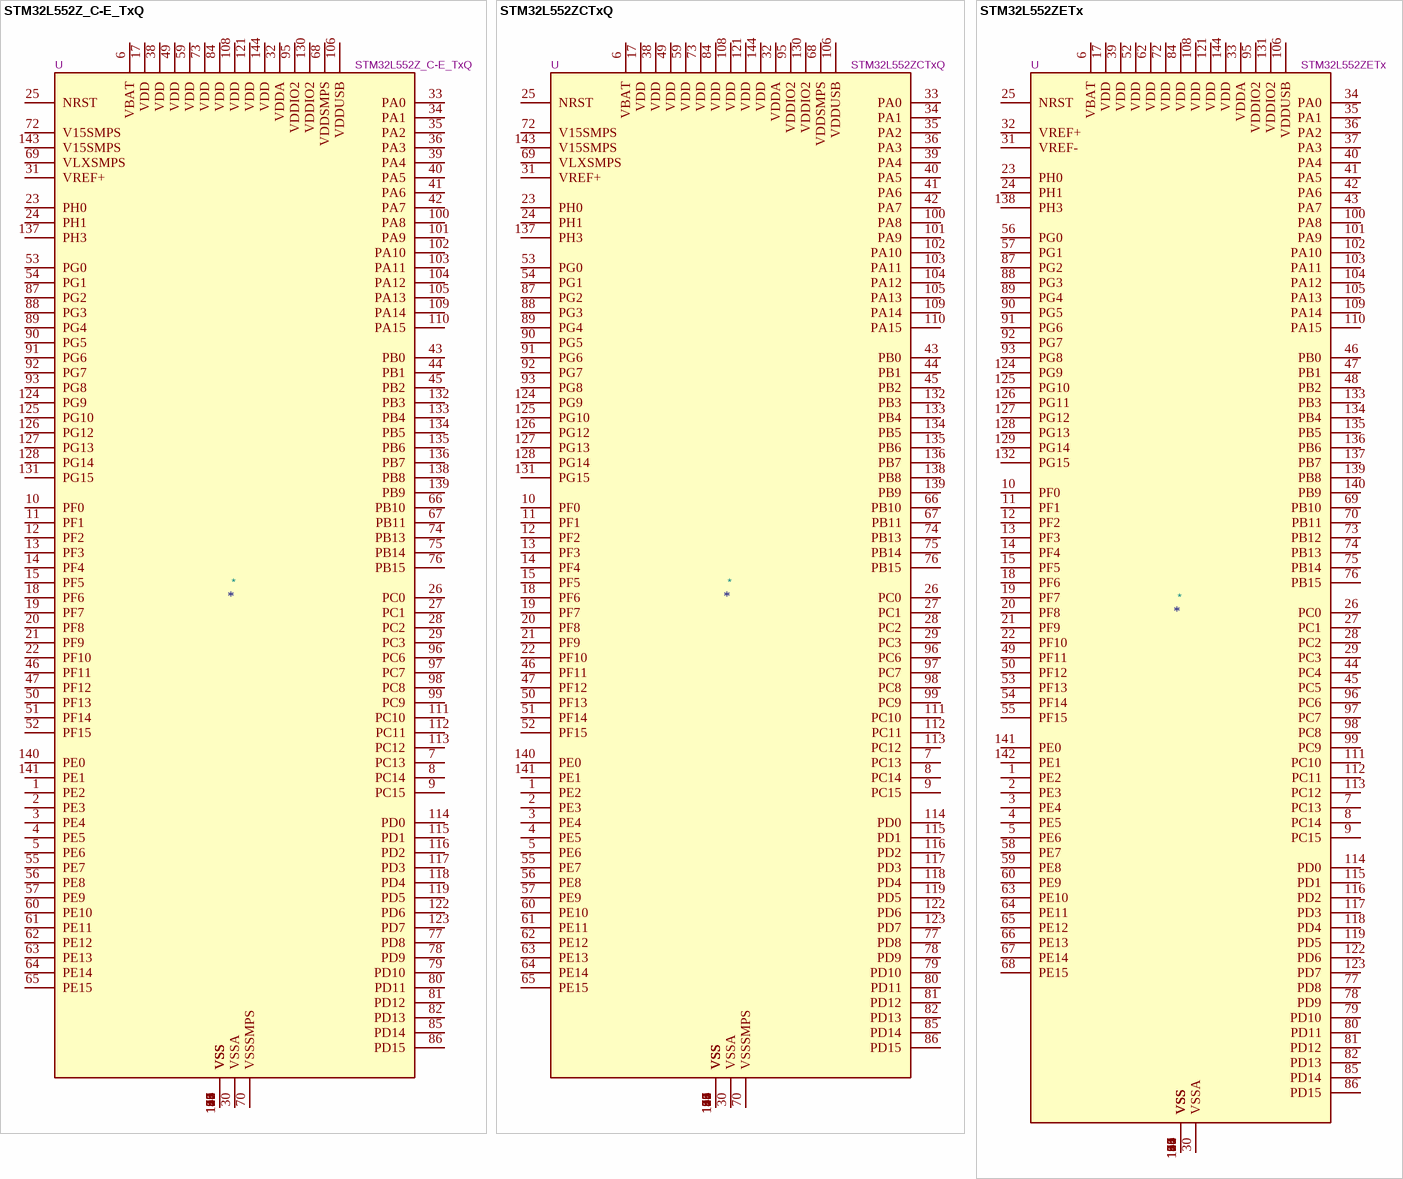
[diagram p4: symbols STM32L552Z_C-E_TxQ to STM32L552ZETx]

## STM32L552Z_C-E_TxQ
designator *  value STM32L552Z_C-E_TxQ  Reference: U
STMicroelectronics Arm Cortex-M33 MCU, 256-512KB flash, 256KB RAM, 110 MHz, 1.71-3.6V, 111 GPIO, LQFP144; ki_keywords: Arm Cortex-M33 STM32L5 STM32L5x2; ki_fp_filters: LQFP*20x20mm*P0.5mm*; Footprint: Package_QFP:LQFP-144_20x20mm_P0.5mm; Datasheet: https://www.st.com/resource/en/datasheet/stm32l552zc.pdf; Description_: STMicroelectronics Arm Cortex-M33 MCU, 256-512KB flash, 256KB RAM, 110 MHz, 1.71-3.6V, 111 GPIO, LQFP144
pins: 1 PE2, 2 PE3, 3 PE4, 4 PE5, 5 PE6, 6 VBAT, 7 PC13, 8 PC14, 9 PC15, 10 PF0, 11 PF1, 12 PF2, 13 PF3, 14 PF4, 15 PF5, 16 VSS, 17 VDD, 18 PF6, 19 PF7, 20 PF8, 21 PF9, 22 PF10, 23 PH0, 24 PH1, 25 NRST, 26 PC0, 27 PC1, 28 PC2, 29 PC3, 30 VSSA, 31 VREF+, 32 VDDA, 33 PA0, 34 PA1, 35 PA2, 36 PA3, 37 VSS, 38 VDD, 39 PA4, 40 PA5, 41 PA6, 42 PA7, 43 PB0, 44 PB1, 45 PB2, 46 PF11, 47 PF12, 48 VSS, 49 VDD, 50 PF13, 51 PF14, 52 PF15, 53 PG0, 54 PG1, 55 PE7, 56 PE8, 57 PE9, 58 VSS, 59 VDD, 60 PE10, 61 PE11, 62 PE12, 63 PE13, 64 PE14, 65 PE15, 66 PB10, 67 PB11, 68 VDDSMPS, 69 VLXSMPS, 70 VSSSMPS, 71 VSS, 72 V15SMPS, 73 VDD, 74 PB13, 75 PB14, 76 PB15, 77 PD8, 78 PD9, 79 PD10, 80 PD11, 81 PD12, 82 PD13, 83 VSS, 84 VDD, 85 PD14, 86 PD15, 87 PG2, 88 PG3, 89 PG4, 90 PG5, 91 PG6, 92 PG7, 93 PG8, 94 VSS, 95 VDDIO2, 96 PC6, 97 PC7, 98 PC8, 99 PC9, 100 PA8, 101 PA9, 102 PA10, 103 PA11, 104 PA12, 105 PA13, 106 VDDUSB, 107 VSS, 108 VDD, 109 PA14, 110 PA15, 111 PC10, 112 PC11, 113 PC12, 114 PD0, 115 PD1, 116 PD2, 117 PD3, 118 PD4, 119 PD5, 120 VSS, 121 VDD, 122 PD6, 123 PD7, 124 PG9, 125 PG10, 126 PG12, 127 PG13, 128 PG14, 129 VSS, 130 VDDIO2, 131 PG15, 132 PB3, 133 PB4, 134 PB5, 135 PB6, 136 PB7, 137 PH3, 138 PB8, 139 PB9, 140 PE0, 141 PE1, 142 VSS, 143 V15SMPS, 144 VDD

## STM32L552ZCTxQ
designator *  value STM32L552ZCTxQ  Reference: U
STMicroelectronics Arm Cortex-M33 MCU, 256KB flash, 256KB RAM, 110 MHz, 1.71-3.6V, 111 GPIO, LQFP144; ki_keywords: Arm Cortex-M33 STM32L5 STM32L5x2; ki_fp_filters: LQFP*20x20mm*P0.5mm*; Footprint: Package_QFP:LQFP-144_20x20mm_P0.5mm; Datasheet: https://www.st.com/resource/en/datasheet/stm32l552zc.pdf; Description_: STMicroelectronics Arm Cortex-M33 MCU, 256KB flash, 256KB RAM, 110 MHz, 1.71-3.6V, 111 GPIO, LQFP144
pins: 1 PE2, 2 PE3, 3 PE4, 4 PE5, 5 PE6, 6 VBAT, 7 PC13, 8 PC14, 9 PC15, 10 PF0, 11 PF1, 12 PF2, 13 PF3, 14 PF4, 15 PF5, 16 VSS, 17 VDD, 18 PF6, 19 PF7, 20 PF8, 21 PF9, 22 PF10, 23 PH0, 24 PH1, 25 NRST, 26 PC0, 27 PC1, 28 PC2, 29 PC3, 30 VSSA, 31 VREF+, 32 VDDA, 33 PA0, 34 PA1, 35 PA2, 36 PA3, 37 VSS, 38 VDD, 39 PA4, 40 PA5, 41 PA6, 42 PA7, 43 PB0, 44 PB1, 45 PB2, 46 PF11, 47 PF12, 48 VSS, 49 VDD, 50 PF13, 51 PF14, 52 PF15, 53 PG0, 54 PG1, 55 PE7, 56 PE8, 57 PE9, 58 VSS, 59 VDD, 60 PE10, 61 PE11, 62 PE12, 63 PE13, 64 PE14, 65 PE15, 66 PB10, 67 PB11, 68 VDDSMPS, 69 VLXSMPS, 70 VSSSMPS, 71 VSS, 72 V15SMPS, 73 VDD, 74 PB13, 75 PB14, 76 PB15, 77 PD8, 78 PD9, 79 PD10, 80 PD11, 81 PD12, 82 PD13, 83 VSS, 84 VDD, 85 PD14, 86 PD15, 87 PG2, 88 PG3, 89 PG4, 90 PG5, 91 PG6, 92 PG7, 93 PG8, 94 VSS, 95 VDDIO2, 96 PC6, 97 PC7, 98 PC8, 99 PC9, 100 PA8, 101 PA9, 102 PA10, 103 PA11, 104 PA12, 105 PA13, 106 VDDUSB, 107 VSS, 108 VDD, 109 PA14, 110 PA15, 111 PC10, 112 PC11, 113 PC12, 114 PD0, 115 PD1, 116 PD2, 117 PD3, 118 PD4, 119 PD5, 120 VSS, 121 VDD, 122 PD6, 123 PD7, 124 PG9, 125 PG10, 126 PG12, 127 PG13, 128 PG14, 129 VSS, 130 VDDIO2, 131 PG15, 132 PB3, 133 PB4, 134 PB5, 135 PB6, 136 PB7, 137 PH3, 138 PB8, 139 PB9, 140 PE0, 141 PE1, 142 VSS, 143 V15SMPS, 144 VDD

## STM32L552ZETx
designator *  value STM32L552ZETx  Reference: U
STMicroelectronics Arm Cortex-M33 MCU, 512KB flash, 256KB RAM, 110 MHz, 1.71-3.6V, 115 GPIO, LQFP144; ki_keywords: Arm Cortex-M33 STM32L5 STM32L5x2; ki_fp_filters: LQFP*20x20mm*P0.5mm*; Footprint: Package_QFP:LQFP-144_20x20mm_P0.5mm; Datasheet: https://www.st.com/resource/en/datasheet/stm32l552ze.pdf; Description_: STMicroelectronics Arm Cortex-M33 MCU, 512KB flash, 256KB RAM, 110 MHz, 1.71-3.6V, 115 GPIO, LQFP144
pins: 1 PE2, 2 PE3, 3 PE4, 4 PE5, 5 PE6, 6 VBAT, 7 PC13, 8 PC14, 9 PC15, 10 PF0, 11 PF1, 12 PF2, 13 PF3, 14 PF4, 15 PF5, 16 VSS, 17 VDD, 18 PF6, 19 PF7, 20 PF8, 21 PF9, 22 PF10, 23 PH0, 24 PH1, 25 NRST, 26 PC0, 27 PC1, 28 PC2, 29 PC3, 30 VSSA, 31 VREF-, 32 VREF+, 33 VDDA, 34 PA0, 35 PA1, 36 PA2, 37 PA3, 38 VSS, 39 VDD, 40 PA4, 41 PA5, 42 PA6, 43 PA7, 44 PC4, 45 PC5, 46 PB0, 47 PB1, 48 PB2, 49 PF11, 50 PF12, 51 VSS, 52 VDD, 53 PF13, 54 PF14, 55 PF15, 56 PG0, 57 PG1, 58 PE7, 59 PE8, 60 PE9, 61 VSS, 62 VDD, 63 PE10, 64 PE11, 65 PE12, 66 PE13, 67 PE14, 68 PE15, 69 PB10, 70 PB11, 71 VSS, 72 VDD, 73 PB12, 74 PB13, 75 PB14, 76 PB15, 77 PD8, 78 PD9, 79 PD10, 80 PD11, 81 PD12, 82 PD13, 83 VSS, 84 VDD, 85 PD14, 86 PD15, 87 PG2, 88 PG3, 89 PG4, 90 PG5, 91 PG6, 92 PG7, 93 PG8, 94 VSS, 95 VDDIO2, 96 PC6, 97 PC7, 98 PC8, 99 PC9, 100 PA8, 101 PA9, 102 PA10, 103 PA11, 104 PA12, 105 PA13, 106 VDDUSB, 107 VSS, 108 VDD, 109 PA14, 110 PA15, 111 PC10, 112 PC11, 113 PC12, 114 PD0, 115 PD1, 116 PD2, 117 PD3, 118 PD4, 119 PD5, 120 VSS, 121 VDD, 122 PD6, 123 PD7, 124 PG9, 125 PG10, 126 PG11, 127 PG12, 128 PG13, 129 PG14, 130 VSS, 131 VDDIO2, 132 PG15, 133 PB3, 134 PB4, 135 PB5, 136 PB6, 137 PB7, 138 PH3, 139 PB8, 140 PB9, 141 PE0, 142 PE1, 143 VSS, 144 VDD

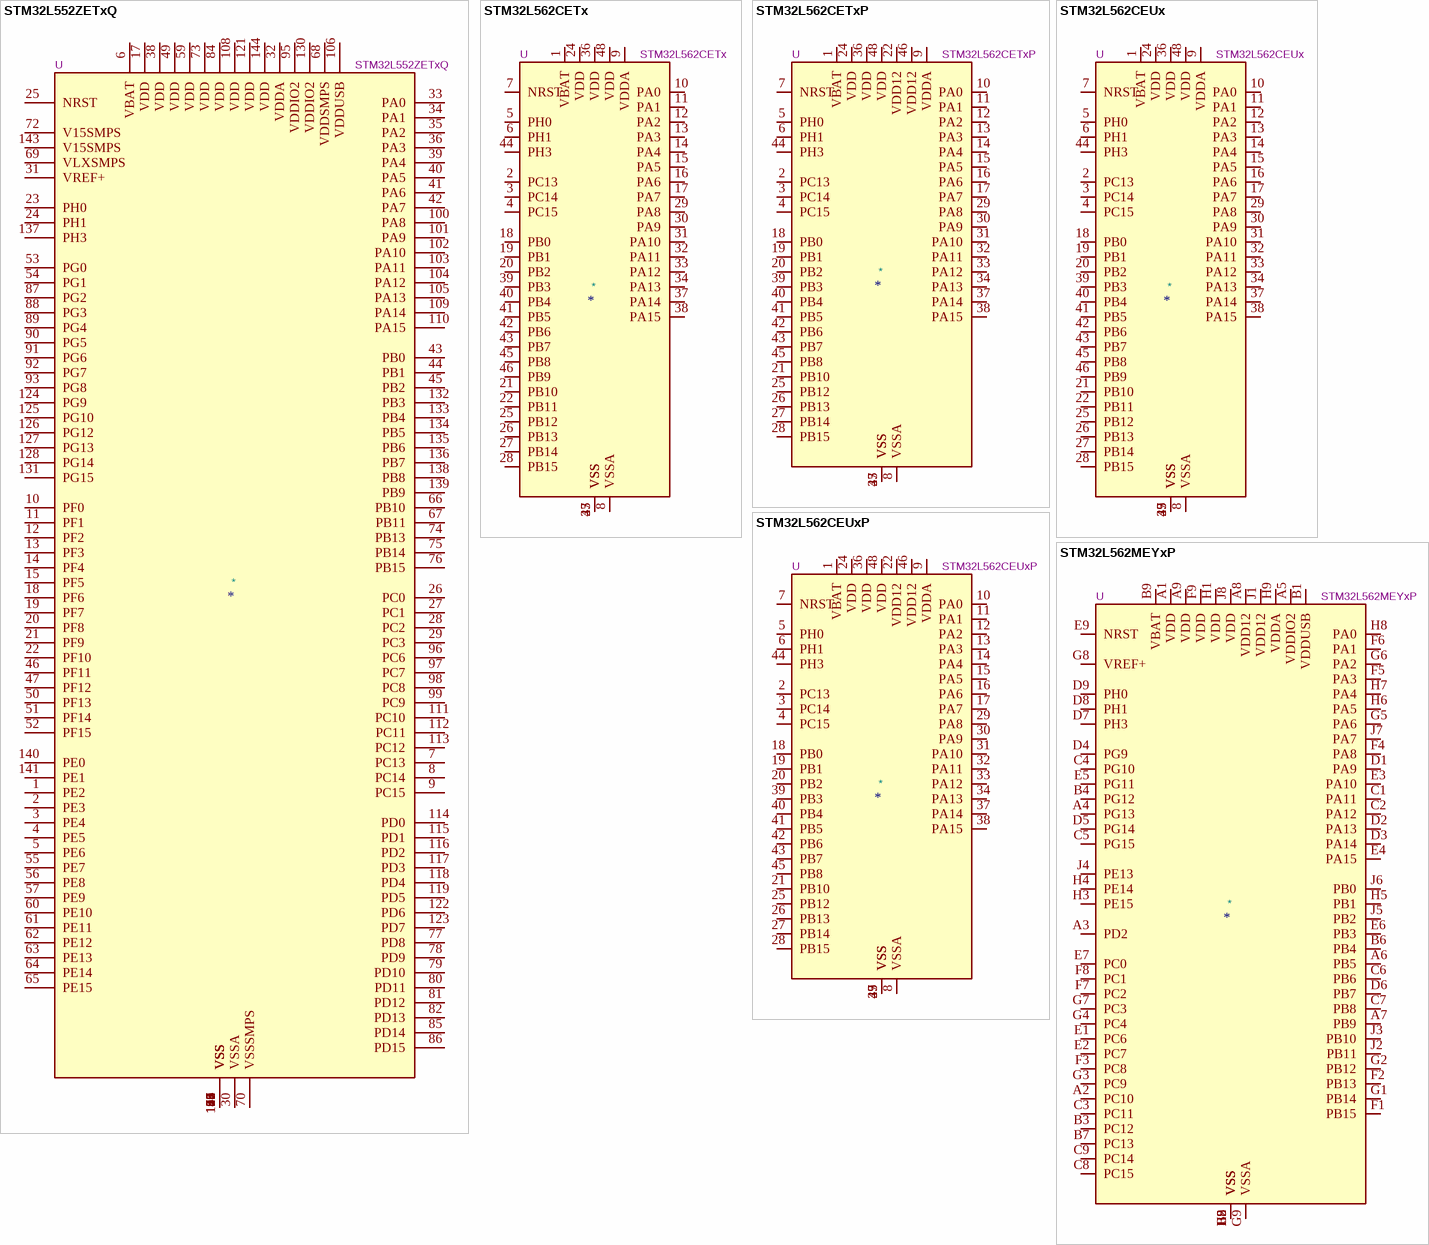
[diagram p5: symbols STM32L552ZETxQ to STM32L562MEYxP]

## STM32L552ZETxQ
designator *  value STM32L552ZETxQ  Reference: U
STMicroelectronics Arm Cortex-M33 MCU, 512KB flash, 256KB RAM, 110 MHz, 1.71-3.6V, 111 GPIO, LQFP144; ki_keywords: Arm Cortex-M33 STM32L5 STM32L5x2; ki_fp_filters: LQFP*20x20mm*P0.5mm*; Footprint: Package_QFP:LQFP-144_20x20mm_P0.5mm; Datasheet: https://www.st.com/resource/en/datasheet/stm32l552ze.pdf; Description_: STMicroelectronics Arm Cortex-M33 MCU, 512KB flash, 256KB RAM, 110 MHz, 1.71-3.6V, 111 GPIO, LQFP144
pins: 1 PE2, 2 PE3, 3 PE4, 4 PE5, 5 PE6, 6 VBAT, 7 PC13, 8 PC14, 9 PC15, 10 PF0, 11 PF1, 12 PF2, 13 PF3, 14 PF4, 15 PF5, 16 VSS, 17 VDD, 18 PF6, 19 PF7, 20 PF8, 21 PF9, 22 PF10, 23 PH0, 24 PH1, 25 NRST, 26 PC0, 27 PC1, 28 PC2, 29 PC3, 30 VSSA, 31 VREF+, 32 VDDA, 33 PA0, 34 PA1, 35 PA2, 36 PA3, 37 VSS, 38 VDD, 39 PA4, 40 PA5, 41 PA6, 42 PA7, 43 PB0, 44 PB1, 45 PB2, 46 PF11, 47 PF12, 48 VSS, 49 VDD, 50 PF13, 51 PF14, 52 PF15, 53 PG0, 54 PG1, 55 PE7, 56 PE8, 57 PE9, 58 VSS, 59 VDD, 60 PE10, 61 PE11, 62 PE12, 63 PE13, 64 PE14, 65 PE15, 66 PB10, 67 PB11, 68 VDDSMPS, 69 VLXSMPS, 70 VSSSMPS, 71 VSS, 72 V15SMPS, 73 VDD, 74 PB13, 75 PB14, 76 PB15, 77 PD8, 78 PD9, 79 PD10, 80 PD11, 81 PD12, 82 PD13, 83 VSS, 84 VDD, 85 PD14, 86 PD15, 87 PG2, 88 PG3, 89 PG4, 90 PG5, 91 PG6, 92 PG7, 93 PG8, 94 VSS, 95 VDDIO2, 96 PC6, 97 PC7, 98 PC8, 99 PC9, 100 PA8, 101 PA9, 102 PA10, 103 PA11, 104 PA12, 105 PA13, 106 VDDUSB, 107 VSS, 108 VDD, 109 PA14, 110 PA15, 111 PC10, 112 PC11, 113 PC12, 114 PD0, 115 PD1, 116 PD2, 117 PD3, 118 PD4, 119 PD5, 120 VSS, 121 VDD, 122 PD6, 123 PD7, 124 PG9, 125 PG10, 126 PG12, 127 PG13, 128 PG14, 129 VSS, 130 VDDIO2, 131 PG15, 132 PB3, 133 PB4, 134 PB5, 135 PB6, 136 PB7, 137 PH3, 138 PB8, 139 PB9, 140 PE0, 141 PE1, 142 VSS, 143 V15SMPS, 144 VDD

## STM32L562CETx
designator *  value STM32L562CETx  Reference: U
STMicroelectronics Arm Cortex-M33 MCU, 512KB flash, 256KB RAM, 110 MHz, 1.71-3.6V, 38 GPIO, LQFP48; ki_keywords: Arm Cortex-M33 STM32L5 STM32L5x2; ki_fp_filters: LQFP*7x7mm*P0.5mm*; Footprint: Package_QFP:LQFP-48_7x7mm_P0.5mm; Datasheet: https://www.st.com/resource/en/datasheet/stm32l562ce.pdf; Description_: STMicroelectronics Arm Cortex-M33 MCU, 512KB flash, 256KB RAM, 110 MHz, 1.71-3.6V, 38 GPIO, LQFP48
pins: 1 VBAT, 2 PC13, 3 PC14, 4 PC15, 5 PH0, 6 PH1, 7 NRST, 8 VSSA, 9 VDDA, 10 PA0, 11 PA1, 12 PA2, 13 PA3, 14 PA4, 15 PA5, 16 PA6, 17 PA7, 18 PB0, 19 PB1, 20 PB2, 21 PB10, 22 PB11, 23 VSS, 24 VDD, 25 PB12, 26 PB13, 27 PB14, 28 PB15, 29 PA8, 30 PA9, 31 PA10, 32 PA11, 33 PA12, 34 PA13, 35 VSS, 36 VDD, 37 PA14, 38 PA15, 39 PB3, 40 PB4, 41 PB5, 42 PB6, 43 PB7, 44 PH3, 45 PB8, 46 PB9, 47 VSS, 48 VDD

## STM32L562CETxP
designator *  value STM32L562CETxP  Reference: U
STMicroelectronics Arm Cortex-M33 MCU, 512KB flash, 256KB RAM, 110 MHz, 1.71-3.6V, 36 GPIO, LQFP48; ki_keywords: Arm Cortex-M33 STM32L5 STM32L5x2; ki_fp_filters: LQFP*7x7mm*P0.5mm*; Footprint: Package_QFP:LQFP-48_7x7mm_P0.5mm; Datasheet: https://www.st.com/resource/en/datasheet/stm32l562ce.pdf; Description_: STMicroelectronics Arm Cortex-M33 MCU, 512KB flash, 256KB RAM, 110 MHz, 1.71-3.6V, 36 GPIO, LQFP48
pins: 1 VBAT, 2 PC13, 3 PC14, 4 PC15, 5 PH0, 6 PH1, 7 NRST, 8 VSSA, 9 VDDA, 10 PA0, 11 PA1, 12 PA2, 13 PA3, 14 PA4, 15 PA5, 16 PA6, 17 PA7, 18 PB0, 19 PB1, 20 PB2, 21 PB10, 22 VDD12, 23 VSS, 24 VDD, 25 PB12, 26 PB13, 27 PB14, 28 PB15, 29 PA8, 30 PA9, 31 PA10, 32 PA11, 33 PA12, 34 PA13, 35 VSS, 36 VDD, 37 PA14, 38 PA15, 39 PB3, 40 PB4, 41 PB5, 42 PB6, 43 PB7, 44 PH3, 45 PB8, 46 VDD12, 47 VSS, 48 VDD

## STM32L562CEUx
designator *  value STM32L562CEUx  Reference: U
STMicroelectronics Arm Cortex-M33 MCU, 512KB flash, 256KB RAM, 110 MHz, 1.71-3.6V, 38 GPIO, UFQFPN48; ki_keywords: Arm Cortex-M33 STM32L5 STM32L5x2; ki_fp_filters: QFN*1EP*7x7mm*P0.5mm*; Footprint: Package_DFN_QFN:QFN-48-1EP_7x7mm_P0.5mm_EP5.6x5.6mm; Datasheet: https://www.st.com/resource/en/datasheet/stm32l562ce.pdf; Description_: STMicroelectronics Arm Cortex-M33 MCU, 512KB flash, 256KB RAM, 110 MHz, 1.71-3.6V, 38 GPIO, UFQFPN48
pins: 1 VBAT, 2 PC13, 3 PC14, 4 PC15, 5 PH0, 6 PH1, 7 NRST, 8 VSSA, 9 VDDA, 10 PA0, 11 PA1, 12 PA2, 13 PA3, 14 PA4, 15 PA5, 16 PA6, 17 PA7, 18 PB0, 19 PB1, 20 PB2, 21 PB10, 22 PB11, 23 VSS, 24 VDD, 25 PB12, 26 PB13, 27 PB14, 28 PB15, 29 PA8, 30 PA9, 31 PA10, 32 PA11, 33 PA12, 34 PA13, 35 VSS, 36 VDD, 37 PA14, 38 PA15, 39 PB3, 40 PB4, 41 PB5, 42 PB6, 43 PB7, 44 PH3, 45 PB8, 46 PB9, 47 VSS, 48 VDD, 49 VSS

## STM32L562CEUxP
designator *  value STM32L562CEUxP  Reference: U
STMicroelectronics Arm Cortex-M33 MCU, 512KB flash, 256KB RAM, 110 MHz, 1.71-3.6V, 36 GPIO, UFQFPN48; ki_keywords: Arm Cortex-M33 STM32L5 STM32L5x2; ki_fp_filters: QFN*1EP*7x7mm*P0.5mm*; Footprint: Package_DFN_QFN:QFN-48-1EP_7x7mm_P0.5mm_EP5.6x5.6mm; Datasheet: https://www.st.com/resource/en/datasheet/stm32l562ce.pdf; Description_: STMicroelectronics Arm Cortex-M33 MCU, 512KB flash, 256KB RAM, 110 MHz, 1.71-3.6V, 36 GPIO, UFQFPN48
pins: 1 VBAT, 2 PC13, 3 PC14, 4 PC15, 5 PH0, 6 PH1, 7 NRST, 8 VSSA, 9 VDDA, 10 PA0, 11 PA1, 12 PA2, 13 PA3, 14 PA4, 15 PA5, 16 PA6, 17 PA7, 18 PB0, 19 PB1, 20 PB2, 21 PB10, 22 VDD12, 23 VSS, 24 VDD, 25 PB12, 26 PB13, 27 PB14, 28 PB15, 29 PA8, 30 PA9, 31 PA10, 32 PA11, 33 PA12, 34 PA13, 35 VSS, 36 VDD, 37 PA14, 38 PA15, 39 PB3, 40 PB4, 41 PB5, 42 PB6, 43 PB7, 44 PH3, 45 PB8, 46 VDD12, 47 VSS, 48 VDD, 49 VSS

## STM32L562MEYxP
designator *  value STM32L562MEYxP  Reference: U
STMicroelectronics Arm Cortex-M33 MCU, 512KB flash, 256KB RAM, 110 MHz, 1.71-3.6V, 61 GPIO, WLCSP81; ki_keywords: Arm Cortex-M33 STM32L5 STM32L5x2; ki_fp_filters: ST*WLCSP*4.36x4.07mm*Layout9x9*P0.4mm*; Footprint: Package_CSP:ST_WLCSP-81_4.36x4.07mm_Layout9x9_P0.4mm; Datasheet: https://www.st.com/resource/en/datasheet/stm32l562me.pdf; Description_: STMicroelectronics Arm Cortex-M33 MCU, 512KB flash, 256KB RAM, 110 MHz, 1.71-3.6V, 61 GPIO, WLCSP81
pins: A1 VDD, A2 PC10, A3 PD2, A4 PG13, A5 VDDIO2, A6 PB5, A7 PB9, A8 VDD12, A9 VDD, B1 VDDUSB, B2 VSS, B3 PC12, B4 PG12, B5 VSS, B6 PB4, B7 PC13, B8 VSS, B9 VBAT, C1 PA11, C2 PA12, C3 PC11, C4 PG10, C5 PG15, C6 PB6, C7 PB8, C8 PC15, C9 PC14, D1 PA9, D2 PA13, D3 PA14, D4 PG9, D5 PG14, D6 PB7, D7 PH3, D8 PH1, D9 PH0, E1 PC6, E2 PC7, E3 PA10, E4 PA15, E5 PG11, E6 PB3, E7 PC0, E8 VSS, E9 NRST, F1 PB15, F2 PB13, F3 PC8, F4 PA8, F5 PA3, F6 PA1, F7 PC2, F8 PC1, F9 VDD, G1 PB14, G2 PB12, G3 PC9, G4 PC4, G5 PA6, G6 PA2, G7 PC3, G8 VREF+, G9 VSSA, H1 VDD, H2 VSS, H3 PE15, H4 PE14, H5 PB1, H6 PA5, H7 PA4, H8 PA0, H9 VDDA, J1 VDD12, J2 PB11, J3 PB10, J4 PE13, J5 PB2, J6 PB0, J7 PA7, J8 VDD, J9 VSS

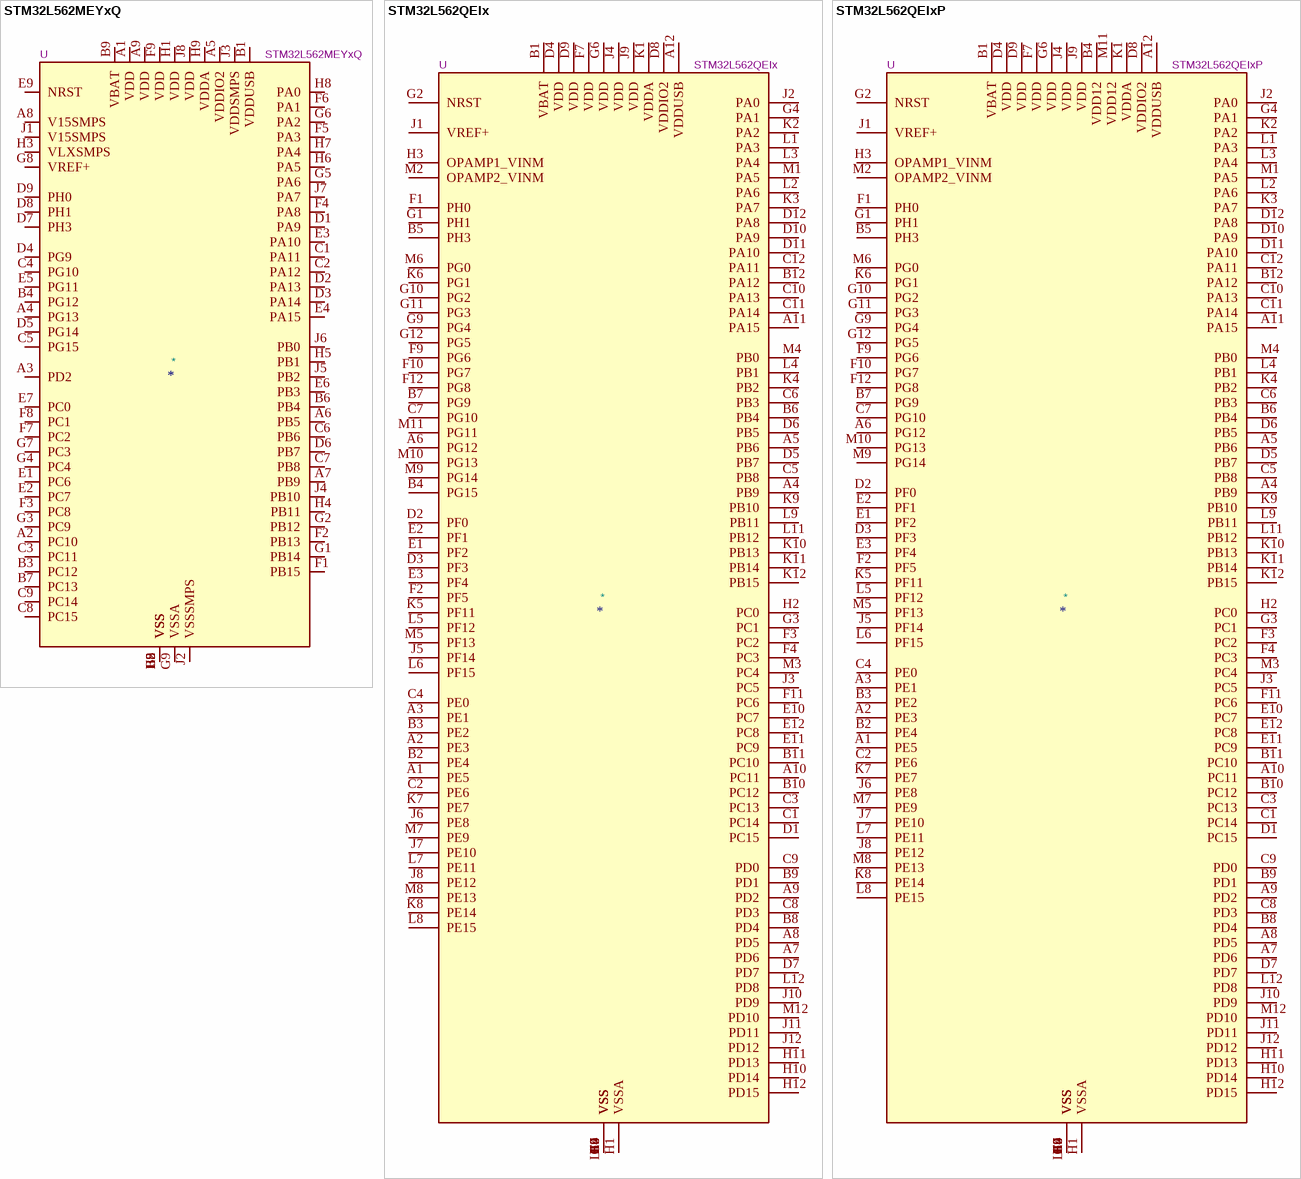
[diagram p6: symbols STM32L562MEYxQ to STM32L562QEIxP]

## STM32L562MEYxQ
designator *  value STM32L562MEYxQ  Reference: U
STMicroelectronics Arm Cortex-M33 MCU, 512KB flash, 256KB RAM, 110 MHz, 1.71-3.6V, 58 GPIO, WLCSP81; ki_keywords: Arm Cortex-M33 STM32L5 STM32L5x2; ki_fp_filters: ST*WLCSP*4.36x4.07mm*Layout9x9*P0.4mm*; Footprint: Package_CSP:ST_WLCSP-81_4.36x4.07mm_Layout9x9_P0.4mm; Datasheet: https://www.st.com/resource/en/datasheet/stm32l562me.pdf; Description_: STMicroelectronics Arm Cortex-M33 MCU, 512KB flash, 256KB RAM, 110 MHz, 1.71-3.6V, 58 GPIO, WLCSP81
pins: A1 VDD, A2 PC10, A3 PD2, A4 PG13, A5 VDDIO2, A6 PB5, A7 PB9, A8 V15SMPS, A9 VDD, B1 VDDUSB, B2 VSS, B3 PC12, B4 PG12, B5 VSS, B6 PB4, B7 PC13, B8 VSS, B9 VBAT, C1 PA11, C2 PA12, C3 PC11, C4 PG10, C5 PG15, C6 PB6, C7 PB8, C8 PC15, C9 PC14, D1 PA9, D2 PA13, D3 PA14, D4 PG9, D5 PG14, D6 PB7, D7 PH3, D8 PH1, D9 PH0, E1 PC6, E2 PC7, E3 PA10, E4 PA15, E5 PG11, E6 PB3, E7 PC0, E8 VSS, E9 NRST, F1 PB15, F2 PB13, F3 PC8, F4 PA8, F5 PA3, F6 PA1, F7 PC2, F8 PC1, F9 VDD, G1 PB14, G2 PB12, G3 PC9, G4 PC4, G5 PA6, G6 PA2, G7 PC3, G8 VREF+, G9 VSSA, H1 VDD, H2 VSS, H3 VLXSMPS, H4 PB11, H5 PB1, H6 PA5, H7 PA4, H8 PA0, H9 VDDA, J1 V15SMPS, J2 VSSSMPS, J3 VDDSMPS, J4 PB10, J5 PB2, J6 PB0, J7 PA7, J8 VDD, J9 VSS

## STM32L562QEIx
designator *  value STM32L562QEIx  Reference: U
STMicroelectronics Arm Cortex-M33 MCU, 512KB flash, 256KB RAM, 110 MHz, 1.71-3.6V, 110 GPIO, UFBGA132; ki_keywords: Arm Cortex-M33 STM32L5 STM32L5x2; ki_fp_filters: UFBGA*7x7mm*Layout12x12*P0.5mm*; Footprint: Package_BGA:UFBGA-132_7x7mm_Layout12x12_P0.5mm; Datasheet: https://www.st.com/resource/en/datasheet/stm32l562qe.pdf; Description_: STMicroelectronics Arm Cortex-M33 MCU, 512KB flash, 256KB RAM, 110 MHz, 1.71-3.6V, 110 GPIO, UFBGA132
pins: A1 PE5, A2 PE3, A3 PE1, A4 PB9, A5 PB6, A6 PG12, A7 PD6, A8 PD5, A9 PD2, A10 PC11, A11 PA15, A12 VDDUSB, B1 VBAT, B2 PE4, B3 PE2, B4 PG15, B5 PH3, B6 PB4, B7 PG9, B8 PD4, B9 PD1, B10 PC12, B11 PC10, B12 PA12, C1 PC14, C2 PE6, C3 PC13, C4 PE0, C5 PB8, C6 PB3, C7 PG10, C8 PD3, C9 PD0, C10 PA13, C11 PA14, C12 PA11, D1 PC15, D2 PF0, D3 PF3, D4 VDD, D5 PB7, D6 PB5, D7 PD7, D8 VDDIO2, D9 VDD, D10 PA9, D11 PA10, D12 PA8, E1 PF2, E2 PF1, E3 PF4, E4 VSS, E9 VSS, E10 PC7, E11 PC9, E12 PC8, F1 PH0, F2 PF5, F3 PC2, F4 PC3, F6 VSS, F7 VDD, F9 PG6, F10 PG7, F11 PC6, F12 PG8, G1 PH1, G2 NRST, G3 PC1, G4 PA1, G6 VDD, G7 VSS, G9 PG4, G10 PG2, G11 PG3, G12 PG5, H1 VSSA, H2 PC0, H3 OPAMP1_VINM, H4 VSS, H9 VSS, H10 PD14, H11 PD13, H12 PD15, J1 VREF+, J2 PA0, J3 PC5, J4 VDD, J5 PF14, J6 PE8, J7 PE10, J8 PE12, J9 VDD, J10 PD9, J11 PD11, J12 PD12, K1 VDDA, K2 PA2, K3 PA7, K4 PB2, K5 PF11, K6 PG1, K7 PE7, K8 PE14, K9 PB10, K10 PB13, K11 PB14, K12 PB15, L1 PA3, L2 PA6, L3 PA4, L4 PB1, L5 PF12, L6 PF15, L7 PE11, L8 PE15, L9 PB11, L10 VSS, L11 PB12, L12 PD8, M1 PA5, M2 OPAMP2_VINM, M3 PC4, M4 PB0, M5 PF13, M6 PG0, M7 PE9, M8 PE13, M9 PG14, M10 PG13, M11 PG11, M12 PD10

## STM32L562QEIxP
designator *  value STM32L562QEIxP  Reference: U
STMicroelectronics Arm Cortex-M33 MCU, 512KB flash, 256KB RAM, 110 MHz, 1.71-3.6V, 108 GPIO, UFBGA132; ki_keywords: Arm Cortex-M33 STM32L5 STM32L5x2; ki_fp_filters: UFBGA*7x7mm*Layout12x12*P0.5mm*; Footprint: Package_BGA:UFBGA-132_7x7mm_Layout12x12_P0.5mm; Datasheet: https://www.st.com/resource/en/datasheet/stm32l562qe.pdf; Description_: STMicroelectronics Arm Cortex-M33 MCU, 512KB flash, 256KB RAM, 110 MHz, 1.71-3.6V, 108 GPIO, UFBGA132
pins: A1 PE5, A2 PE3, A3 PE1, A4 PB9, A5 PB6, A6 PG12, A7 PD6, A8 PD5, A9 PD2, A10 PC11, A11 PA15, A12 VDDUSB, B1 VBAT, B2 PE4, B3 PE2, B4 VDD12, B5 PH3, B6 PB4, B7 PG9, B8 PD4, B9 PD1, B10 PC12, B11 PC10, B12 PA12, C1 PC14, C2 PE6, C3 PC13, C4 PE0, C5 PB8, C6 PB3, C7 PG10, C8 PD3, C9 PD0, C10 PA13, C11 PA14, C12 PA11, D1 PC15, D2 PF0, D3 PF3, D4 VDD, D5 PB7, D6 PB5, D7 PD7, D8 VDDIO2, D9 VDD, D10 PA9, D11 PA10, D12 PA8, E1 PF2, E2 PF1, E3 PF4, E4 VSS, E9 VSS, E10 PC7, E11 PC9, E12 PC8, F1 PH0, F2 PF5, F3 PC2, F4 PC3, F6 VSS, F7 VDD, F9 PG6, F10 PG7, F11 PC6, F12 PG8, G1 PH1, G2 NRST, G3 PC1, G4 PA1, G6 VDD, G7 VSS, G9 PG4, G10 PG2, G11 PG3, G12 PG5, H1 VSSA, H2 PC0, H3 OPAMP1_VINM, H4 VSS, H9 VSS, H10 PD14, H11 PD13, H12 PD15, J1 VREF+, J2 PA0, J3 PC5, J4 VDD, J5 PF14, J6 PE8, J7 PE10, J8 PE12, J9 VDD, J10 PD9, J11 PD11, J12 PD12, K1 VDDA, K2 PA2, K3 PA7, K4 PB2, K5 PF11, K6 PG1, K7 PE7, K8 PE14, K9 PB10, K10 PB13, K11 PB14, K12 PB15, L1 PA3, L2 PA6, L3 PA4, L4 PB1, L5 PF12, L6 PF15, L7 PE11, L8 PE15, L9 PB11, L10 VSS, L11 PB12, L12 PD8, M1 PA5, M2 OPAMP2_VINM, M3 PC4, M4 PB0, M5 PF13, M6 PG0, M7 PE9, M8 PE13, M9 PG14, M10 PG13, M11 VDD12, M12 PD10

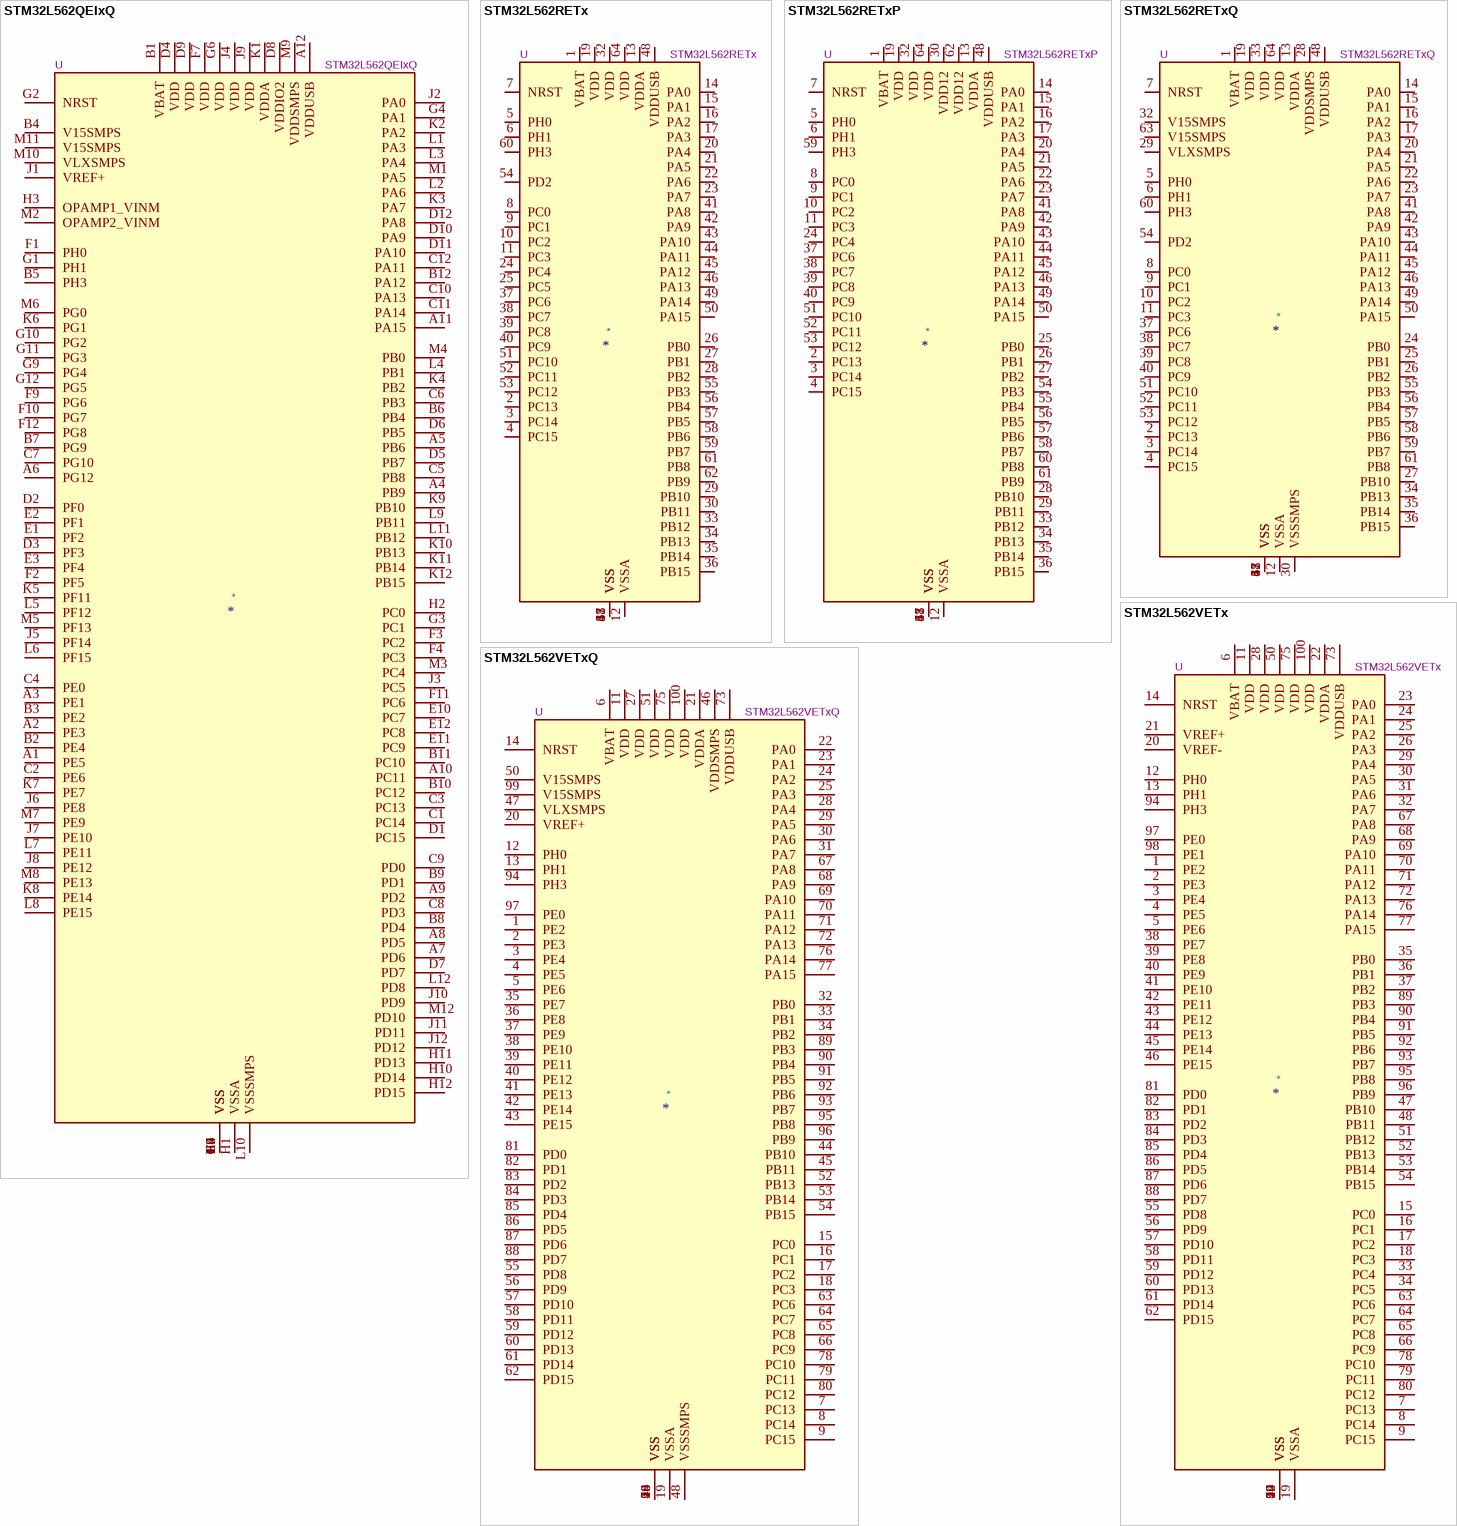
[diagram p7: symbols STM32L562QEIxQ to STM32L562VETxQ]

## STM32L562QEIxQ
designator *  value STM32L562QEIxQ  Reference: U
STMicroelectronics Arm Cortex-M33 MCU, 512KB flash, 256KB RAM, 110 MHz, 1.71-3.6V, 106 GPIO, UFBGA132; ki_keywords: Arm Cortex-M33 STM32L5 STM32L5x2; ki_fp_filters: UFBGA*7x7mm*Layout12x12*P0.5mm*; Footprint: Package_BGA:UFBGA-132_7x7mm_Layout12x12_P0.5mm; Datasheet: https://www.st.com/resource/en/datasheet/stm32l562qe.pdf; Description_: STMicroelectronics Arm Cortex-M33 MCU, 512KB flash, 256KB RAM, 110 MHz, 1.71-3.6V, 106 GPIO, UFBGA132
pins: A1 PE5, A2 PE3, A3 PE1, A4 PB9, A5 PB6, A6 PG12, A7 PD6, A8 PD5, A9 PD2, A10 PC11, A11 PA15, A12 VDDUSB, B1 VBAT, B2 PE4, B3 PE2, B4 V15SMPS, B5 PH3, B6 PB4, B7 PG9, B8 PD4, B9 PD1, B10 PC12, B11 PC10, B12 PA12, C1 PC14, C2 PE6, C3 PC13, C4 PE0, C5 PB8, C6 PB3, C7 PG10, C8 PD3, C9 PD0, C10 PA13, C11 PA14, C12 PA11, D1 PC15, D2 PF0, D3 PF3, D4 VDD, D5 PB7, D6 PB5, D7 PD7, D8 VDDIO2, D9 VDD, D10 PA9, D11 PA10, D12 PA8, E1 PF2, E2 PF1, E3 PF4, E4 VSS, E9 VSS, E10 PC7, E11 PC9, E12 PC8, F1 PH0, F2 PF5, F3 PC2, F4 PC3, F6 VSS, F7 VDD, F9 PG6, F10 PG7, F11 PC6, F12 PG8, G1 PH1, G2 NRST, G3 PC1, G4 PA1, G6 VDD, G7 VSS, G9 PG4, G10 PG2, G11 PG3, G12 PG5, H1 VSSA, H2 PC0, H3 OPAMP1_VINM, H4 VSS, H9 VSS, H10 PD14, H11 PD13, H12 PD15, J1 VREF+, J2 PA0, J3 PC5, J4 VDD, J5 PF14, J6 PE8, J7 PE10, J8 PE12, J9 VDD, J10 PD9, J11 PD11, J12 PD12, K1 VDDA, K2 PA2, K3 PA7, K4 PB2, K5 PF11, K6 PG1, K7 PE7, K8 PE14, K9 PB10, K10 PB13, K11 PB14, K12 PB15, L1 PA3, L2 PA6, L3 PA4, L4 PB1, L5 PF12, L6 PF15, L7 PE11, L8 PE15, L9 PB11, L10 VSSSMPS, L11 PB12, L12 PD8, M1 PA5, M2 OPAMP2_VINM, M3 PC4, M4 PB0, M5 PF13, M6 PG0, M7 PE9, M8 PE13, M9 VDDSMPS, M10 VLXSMPS, M11 V15SMPS, M12 PD10

## STM32L562RETx
designator *  value STM32L562RETx  Reference: U
STMicroelectronics Arm Cortex-M33 MCU, 512KB flash, 256KB RAM, 110 MHz, 1.71-3.6V, 52 GPIO, LQFP64; ki_keywords: Arm Cortex-M33 STM32L5 STM32L5x2; ki_fp_filters: LQFP*10x10mm*P0.5mm*; Footprint: Package_QFP:LQFP-64_10x10mm_P0.5mm; Datasheet: https://www.st.com/resource/en/datasheet/stm32l562re.pdf; Description_: STMicroelectronics Arm Cortex-M33 MCU, 512KB flash, 256KB RAM, 110 MHz, 1.71-3.6V, 52 GPIO, LQFP64
pins: 1 VBAT, 2 PC13, 3 PC14, 4 PC15, 5 PH0, 6 PH1, 7 NRST, 8 PC0, 9 PC1, 10 PC2, 11 PC3, 12 VSSA, 13 VDDA, 14 PA0, 15 PA1, 16 PA2, 17 PA3, 18 VSS, 19 VDD, 20 PA4, 21 PA5, 22 PA6, 23 PA7, 24 PC4, 25 PC5, 26 PB0, 27 PB1, 28 PB2, 29 PB10, 30 PB11, 31 VSS, 32 VDD, 33 PB12, 34 PB13, 35 PB14, 36 PB15, 37 PC6, 38 PC7, 39 PC8, 40 PC9, 41 PA8, 42 PA9, 43 PA10, 44 PA11, 45 PA12, 46 PA13, 47 VSS, 48 VDDUSB, 49 PA14, 50 PA15, 51 PC10, 52 PC11, 53 PC12, 54 PD2, 55 PB3, 56 PB4, 57 PB5, 58 PB6, 59 PB7, 60 PH3, 61 PB8, 62 PB9, 63 VSS, 64 VDD

## STM32L562RETxP
designator *  value STM32L562RETxP  Reference: U
STMicroelectronics Arm Cortex-M33 MCU, 512KB flash, 256KB RAM, 110 MHz, 1.71-3.6V, 50 GPIO, LQFP64; ki_keywords: Arm Cortex-M33 STM32L5 STM32L5x2; ki_fp_filters: LQFP*10x10mm*P0.5mm*; Footprint: Package_QFP:LQFP-64_10x10mm_P0.5mm; Datasheet: https://www.st.com/resource/en/datasheet/stm32l562re.pdf; Description_: STMicroelectronics Arm Cortex-M33 MCU, 512KB flash, 256KB RAM, 110 MHz, 1.71-3.6V, 50 GPIO, LQFP64
pins: 1 VBAT, 2 PC13, 3 PC14, 4 PC15, 5 PH0, 6 PH1, 7 NRST, 8 PC0, 9 PC1, 10 PC2, 11 PC3, 12 VSSA, 13 VDDA, 14 PA0, 15 PA1, 16 PA2, 17 PA3, 18 VSS, 19 VDD, 20 PA4, 21 PA5, 22 PA6, 23 PA7, 24 PC4, 25 PB0, 26 PB1, 27 PB2, 28 PB10, 29 PB11, 30 VDD12, 31 VSS, 32 VDD, 33 PB12, 34 PB13, 35 PB14, 36 PB15, 37 PC6, 38 PC7, 39 PC8, 40 PC9, 41 PA8, 42 PA9, 43 PA10, 44 PA11, 45 PA12, 46 PA13, 47 VSS, 48 VDDUSB, 49 PA14, 50 PA15, 51 PC10, 52 PC11, 53 PC12, 54 PB3, 55 PB4, 56 PB5, 57 PB6, 58 PB7, 59 PH3, 60 PB8, 61 PB9, 62 VDD12, 63 VSS, 64 VDD